# Altium schematic symbol library MCU_ST_STM32L1.SchLib: 158 symbols (part 1 of 4)
Pins are listed as number, name and electrical type; pins without a type are passive.

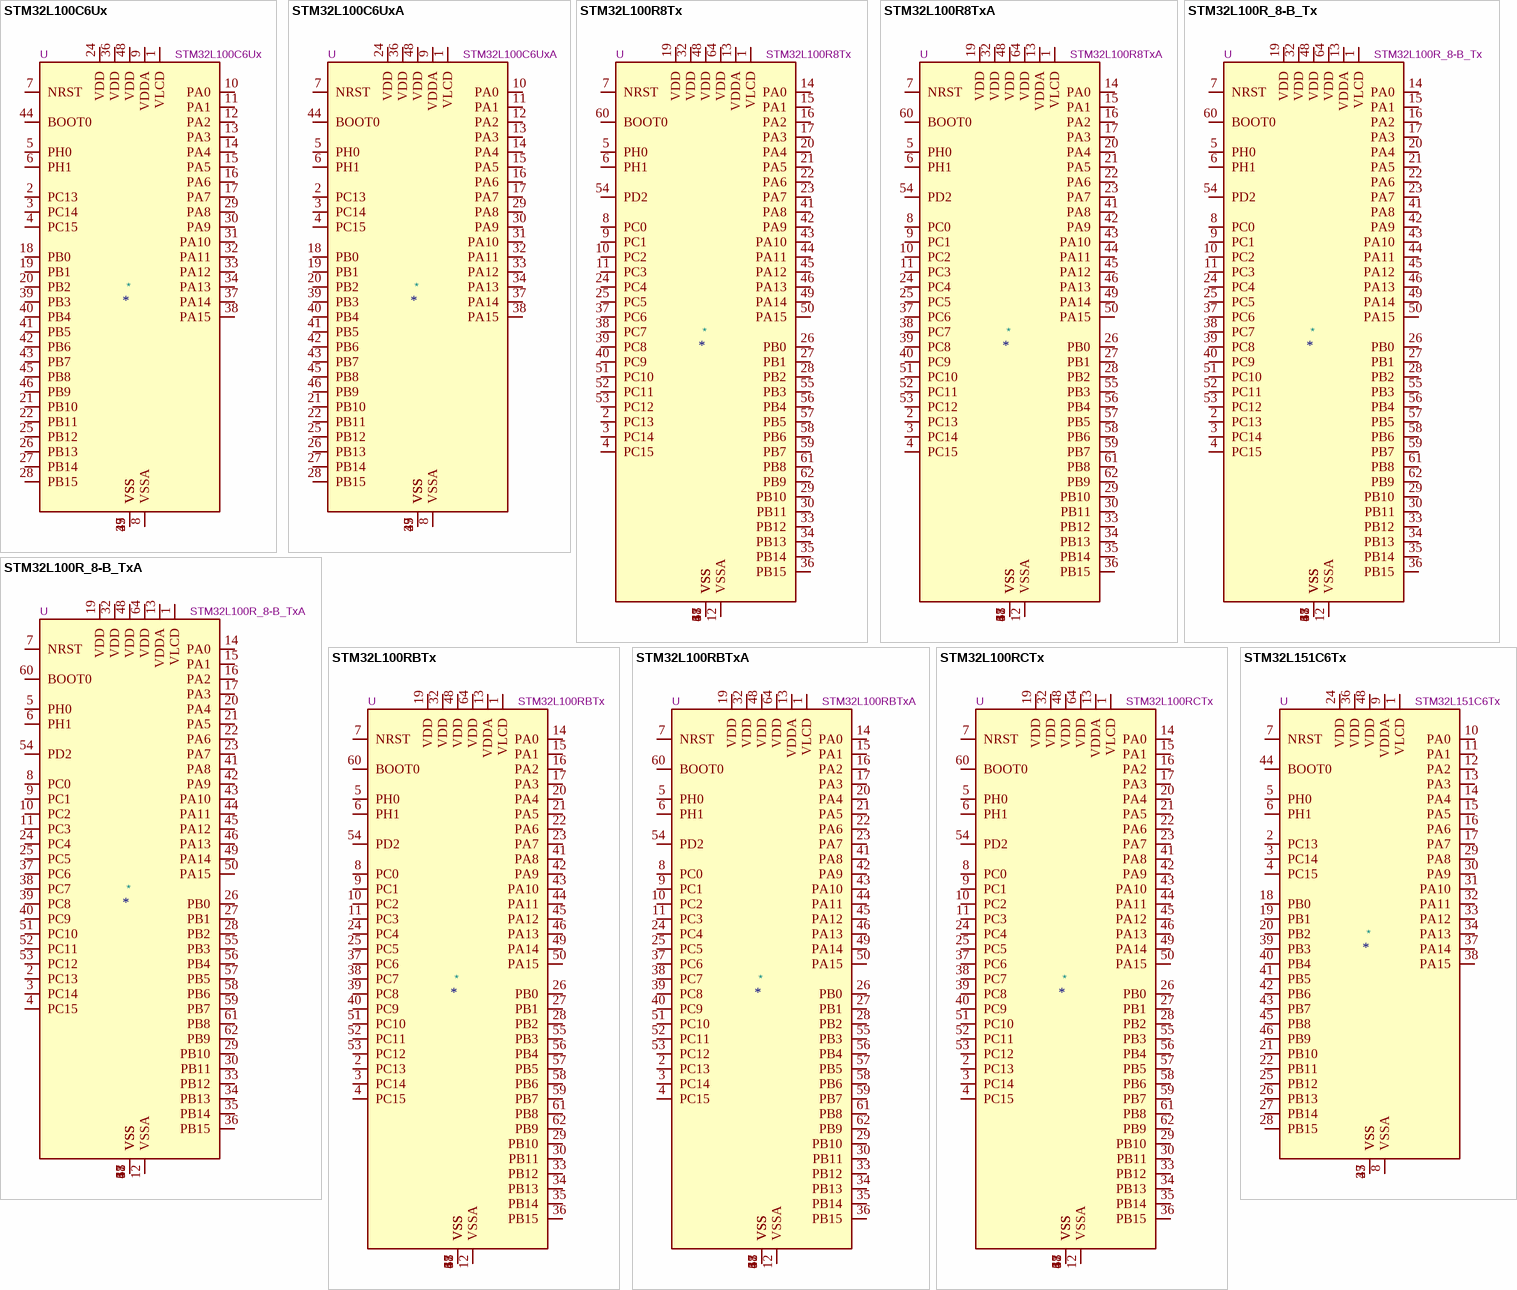
[diagram p0: symbols STM32L100C6Ux to STM32L151C6Tx]

## STM32L100C6Ux
designator *  value STM32L100C6Ux  Reference: U
STMicroelectronics Arm Cortex-M3 MCU, 32KB flash, 4KB RAM, 32 MHz, 1.8-3.6V, 37 GPIO, UFQFPN48; ki_keywords: Arm Cortex-M3 STM32L1 STM32L100 Value Line; ki_fp_filters: QFN*1EP*7x7mm*P0.5mm*; Footprint: Package_DFN_QFN:QFN-48-1EP_7x7mm_P0.5mm_EP5.6x5.6mm; Datasheet: https://www.st.com/resource/en/datasheet/stm32l100c6.pdf; Description_: STMicroelectronics Arm Cortex-M3 MCU, 32KB flash, 4KB RAM, 32 MHz, 1.8-3.6V, 37 GPIO, UFQFPN48
pins: 1 VLCD, 2 PC13, 3 PC14, 4 PC15, 5 PH0, 6 PH1, 7 NRST, 8 VSSA, 9 VDDA, 10 PA0, 11 PA1, 12 PA2, 13 PA3, 14 PA4, 15 PA5, 16 PA6, 17 PA7, 18 PB0, 19 PB1, 20 PB2, 21 PB10, 22 PB11, 23 VSS, 24 VDD, 25 PB12, 26 PB13, 27 PB14, 28 PB15, 29 PA8, 30 PA9, 31 PA10, 32 PA11, 33 PA12, 34 PA13, 35 VSS, 36 VDD, 37 PA14, 38 PA15, 39 PB3, 40 PB4, 41 PB5, 42 PB6, 43 PB7, 44 BOOT0, 45 PB8, 46 PB9, 47 VSS, 48 VDD, 49 VSS

## STM32L100C6UxA
designator *  value STM32L100C6UxA  Reference: U
STMicroelectronics Arm Cortex-M3 MCU, 32KB flash, 4KB RAM, 32 MHz, 1.8-3.6V, 37 GPIO, UFQFPN48; ki_keywords: Arm Cortex-M3 STM32L1 STM32L100 Value Line; ki_fp_filters: QFN*1EP*7x7mm*P0.5mm*; Footprint: Package_DFN_QFN:QFN-48-1EP_7x7mm_P0.5mm_EP5.6x5.6mm; Datasheet: https://www.st.com/resource/en/datasheet/stm32l100c6-a.pdf; Description_: STMicroelectronics Arm Cortex-M3 MCU, 32KB flash, 4KB RAM, 32 MHz, 1.8-3.6V, 37 GPIO, UFQFPN48
pins: 1 VLCD, 2 PC13, 3 PC14, 4 PC15, 5 PH0, 6 PH1, 7 NRST, 8 VSSA, 9 VDDA, 10 PA0, 11 PA1, 12 PA2, 13 PA3, 14 PA4, 15 PA5, 16 PA6, 17 PA7, 18 PB0, 19 PB1, 20 PB2, 21 PB10, 22 PB11, 23 VSS, 24 VDD, 25 PB12, 26 PB13, 27 PB14, 28 PB15, 29 PA8, 30 PA9, 31 PA10, 32 PA11, 33 PA12, 34 PA13, 35 VSS, 36 VDD, 37 PA14, 38 PA15, 39 PB3, 40 PB4, 41 PB5, 42 PB6, 43 PB7, 44 BOOT0, 45 PB8, 46 PB9, 47 VSS, 48 VDD, 49 VSS

## STM32L100R8Tx
designator *  value STM32L100R8Tx  Reference: U
STMicroelectronics Arm Cortex-M3 MCU, 64KB flash, 8KB RAM, 32 MHz, 1.8-3.6V, 51 GPIO, LQFP64; ki_keywords: Arm Cortex-M3 STM32L1 STM32L100 Value Line; ki_fp_filters: LQFP*10x10mm*P0.5mm*; Footprint: Package_QFP:LQFP-64_10x10mm_P0.5mm; Datasheet: https://www.st.com/resource/en/datasheet/stm32l100r8.pdf; Description_: STMicroelectronics Arm Cortex-M3 MCU, 64KB flash, 8KB RAM, 32 MHz, 1.8-3.6V, 51 GPIO, LQFP64
pins: 1 VLCD, 2 PC13, 3 PC14, 4 PC15, 5 PH0, 6 PH1, 7 NRST, 8 PC0, 9 PC1, 10 PC2, 11 PC3, 12 VSSA, 13 VDDA, 14 PA0, 15 PA1, 16 PA2, 17 PA3, 18 VSS, 19 VDD, 20 PA4, 21 PA5, 22 PA6, 23 PA7, 24 PC4, 25 PC5, 26 PB0, 27 PB1, 28 PB2, 29 PB10, 30 PB11, 31 VSS, 32 VDD, 33 PB12, 34 PB13, 35 PB14, 36 PB15, 37 PC6, 38 PC7, 39 PC8, 40 PC9, 41 PA8, 42 PA9, 43 PA10, 44 PA11, 45 PA12, 46 PA13, 47 VSS, 48 VDD, 49 PA14, 50 PA15, 51 PC10, 52 PC11, 53 PC12, 54 PD2, 55 PB3, 56 PB4, 57 PB5, 58 PB6, 59 PB7, 60 BOOT0, 61 PB8, 62 PB9, 63 VSS, 64 VDD

## STM32L100R8TxA
designator *  value STM32L100R8TxA  Reference: U
STMicroelectronics Arm Cortex-M3 MCU, 64KB flash, 8KB RAM, 32 MHz, 1.8-3.6V, 51 GPIO, LQFP64; ki_keywords: Arm Cortex-M3 STM32L1 STM32L100 Value Line; ki_fp_filters: LQFP*10x10mm*P0.5mm*; Footprint: Package_QFP:LQFP-64_10x10mm_P0.5mm; Datasheet: https://www.st.com/resource/en/datasheet/stm32l100r8-a.pdf; Description_: STMicroelectronics Arm Cortex-M3 MCU, 64KB flash, 8KB RAM, 32 MHz, 1.8-3.6V, 51 GPIO, LQFP64
pins: 1 VLCD, 2 PC13, 3 PC14, 4 PC15, 5 PH0, 6 PH1, 7 NRST, 8 PC0, 9 PC1, 10 PC2, 11 PC3, 12 VSSA, 13 VDDA, 14 PA0, 15 PA1, 16 PA2, 17 PA3, 18 VSS, 19 VDD, 20 PA4, 21 PA5, 22 PA6, 23 PA7, 24 PC4, 25 PC5, 26 PB0, 27 PB1, 28 PB2, 29 PB10, 30 PB11, 31 VSS, 32 VDD, 33 PB12, 34 PB13, 35 PB14, 36 PB15, 37 PC6, 38 PC7, 39 PC8, 40 PC9, 41 PA8, 42 PA9, 43 PA10, 44 PA11, 45 PA12, 46 PA13, 47 VSS, 48 VDD, 49 PA14, 50 PA15, 51 PC10, 52 PC11, 53 PC12, 54 PD2, 55 PB3, 56 PB4, 57 PB5, 58 PB6, 59 PB7, 60 BOOT0, 61 PB8, 62 PB9, 63 VSS, 64 VDD

## STM32L100R_8-B_Tx
designator *  value STM32L100R_8-B_Tx  Reference: U
STMicroelectronics Arm Cortex-M3 MCU, 64-128KB flash, 8-10KB RAM, 32 MHz, 1.8-3.6V, 51 GPIO, LQFP64; ki_keywords: Arm Cortex-M3 STM32L1 STM32L100 Value Line; ki_fp_filters: LQFP*10x10mm*P0.5mm*; Footprint: Package_QFP:LQFP-64_10x10mm_P0.5mm; Datasheet: https://www.st.com/resource/en/datasheet/stm32l100r8.pdf; Description_: STMicroelectronics Arm Cortex-M3 MCU, 64-128KB flash, 8-10KB RAM, 32 MHz, 1.8-3.6V, 51 GPIO, LQFP64
pins: 1 VLCD, 2 PC13, 3 PC14, 4 PC15, 5 PH0, 6 PH1, 7 NRST, 8 PC0, 9 PC1, 10 PC2, 11 PC3, 12 VSSA, 13 VDDA, 14 PA0, 15 PA1, 16 PA2, 17 PA3, 18 VSS, 19 VDD, 20 PA4, 21 PA5, 22 PA6, 23 PA7, 24 PC4, 25 PC5, 26 PB0, 27 PB1, 28 PB2, 29 PB10, 30 PB11, 31 VSS, 32 VDD, 33 PB12, 34 PB13, 35 PB14, 36 PB15, 37 PC6, 38 PC7, 39 PC8, 40 PC9, 41 PA8, 42 PA9, 43 PA10, 44 PA11, 45 PA12, 46 PA13, 47 VSS, 48 VDD, 49 PA14, 50 PA15, 51 PC10, 52 PC11, 53 PC12, 54 PD2, 55 PB3, 56 PB4, 57 PB5, 58 PB6, 59 PB7, 60 BOOT0, 61 PB8, 62 PB9, 63 VSS, 64 VDD

## STM32L100R_8-B_TxA
designator *  value STM32L100R_8-B_TxA  Reference: U
STMicroelectronics Arm Cortex-M3 MCU, 64-128KB flash, 8-16KB RAM, 32 MHz, 1.8-3.6V, 51 GPIO, LQFP64; ki_keywords: Arm Cortex-M3 STM32L1 STM32L100 Value Line; ki_fp_filters: LQFP*10x10mm*P0.5mm*; Footprint: Package_QFP:LQFP-64_10x10mm_P0.5mm; Datasheet: https://www.st.com/resource/en/datasheet/stm32l100r8-a.pdf; Description_: STMicroelectronics Arm Cortex-M3 MCU, 64-128KB flash, 8-16KB RAM, 32 MHz, 1.8-3.6V, 51 GPIO, LQFP64
pins: 1 VLCD, 2 PC13, 3 PC14, 4 PC15, 5 PH0, 6 PH1, 7 NRST, 8 PC0, 9 PC1, 10 PC2, 11 PC3, 12 VSSA, 13 VDDA, 14 PA0, 15 PA1, 16 PA2, 17 PA3, 18 VSS, 19 VDD, 20 PA4, 21 PA5, 22 PA6, 23 PA7, 24 PC4, 25 PC5, 26 PB0, 27 PB1, 28 PB2, 29 PB10, 30 PB11, 31 VSS, 32 VDD, 33 PB12, 34 PB13, 35 PB14, 36 PB15, 37 PC6, 38 PC7, 39 PC8, 40 PC9, 41 PA8, 42 PA9, 43 PA10, 44 PA11, 45 PA12, 46 PA13, 47 VSS, 48 VDD, 49 PA14, 50 PA15, 51 PC10, 52 PC11, 53 PC12, 54 PD2, 55 PB3, 56 PB4, 57 PB5, 58 PB6, 59 PB7, 60 BOOT0, 61 PB8, 62 PB9, 63 VSS, 64 VDD

## STM32L100RBTx
designator *  value STM32L100RBTx  Reference: U
STMicroelectronics Arm Cortex-M3 MCU, 128KB flash, 10KB RAM, 32 MHz, 1.8-3.6V, 51 GPIO, LQFP64; ki_keywords: Arm Cortex-M3 STM32L1 STM32L100 Value Line; ki_fp_filters: LQFP*10x10mm*P0.5mm*; Footprint: Package_QFP:LQFP-64_10x10mm_P0.5mm; Datasheet: https://www.st.com/resource/en/datasheet/stm32l100rb.pdf; Description_: STMicroelectronics Arm Cortex-M3 MCU, 128KB flash, 10KB RAM, 32 MHz, 1.8-3.6V, 51 GPIO, LQFP64
pins: 1 VLCD, 2 PC13, 3 PC14, 4 PC15, 5 PH0, 6 PH1, 7 NRST, 8 PC0, 9 PC1, 10 PC2, 11 PC3, 12 VSSA, 13 VDDA, 14 PA0, 15 PA1, 16 PA2, 17 PA3, 18 VSS, 19 VDD, 20 PA4, 21 PA5, 22 PA6, 23 PA7, 24 PC4, 25 PC5, 26 PB0, 27 PB1, 28 PB2, 29 PB10, 30 PB11, 31 VSS, 32 VDD, 33 PB12, 34 PB13, 35 PB14, 36 PB15, 37 PC6, 38 PC7, 39 PC8, 40 PC9, 41 PA8, 42 PA9, 43 PA10, 44 PA11, 45 PA12, 46 PA13, 47 VSS, 48 VDD, 49 PA14, 50 PA15, 51 PC10, 52 PC11, 53 PC12, 54 PD2, 55 PB3, 56 PB4, 57 PB5, 58 PB6, 59 PB7, 60 BOOT0, 61 PB8, 62 PB9, 63 VSS, 64 VDD

## STM32L100RBTxA
designator *  value STM32L100RBTxA  Reference: U
STMicroelectronics Arm Cortex-M3 MCU, 128KB flash, 16KB RAM, 32 MHz, 1.8-3.6V, 51 GPIO, LQFP64; ki_keywords: Arm Cortex-M3 STM32L1 STM32L100 Value Line; ki_fp_filters: LQFP*10x10mm*P0.5mm*; Footprint: Package_QFP:LQFP-64_10x10mm_P0.5mm; Datasheet: https://www.st.com/resource/en/datasheet/stm32l100rb-a.pdf; Description_: STMicroelectronics Arm Cortex-M3 MCU, 128KB flash, 16KB RAM, 32 MHz, 1.8-3.6V, 51 GPIO, LQFP64
pins: 1 VLCD, 2 PC13, 3 PC14, 4 PC15, 5 PH0, 6 PH1, 7 NRST, 8 PC0, 9 PC1, 10 PC2, 11 PC3, 12 VSSA, 13 VDDA, 14 PA0, 15 PA1, 16 PA2, 17 PA3, 18 VSS, 19 VDD, 20 PA4, 21 PA5, 22 PA6, 23 PA7, 24 PC4, 25 PC5, 26 PB0, 27 PB1, 28 PB2, 29 PB10, 30 PB11, 31 VSS, 32 VDD, 33 PB12, 34 PB13, 35 PB14, 36 PB15, 37 PC6, 38 PC7, 39 PC8, 40 PC9, 41 PA8, 42 PA9, 43 PA10, 44 PA11, 45 PA12, 46 PA13, 47 VSS, 48 VDD, 49 PA14, 50 PA15, 51 PC10, 52 PC11, 53 PC12, 54 PD2, 55 PB3, 56 PB4, 57 PB5, 58 PB6, 59 PB7, 60 BOOT0, 61 PB8, 62 PB9, 63 VSS, 64 VDD

## STM32L100RCTx
designator *  value STM32L100RCTx  Reference: U
STMicroelectronics Arm Cortex-M3 MCU, 256KB flash, 16KB RAM, 32 MHz, 1.8-3.6V, 51 GPIO, LQFP64; ki_keywords: Arm Cortex-M3 STM32L1 STM32L100 Value Line; ki_fp_filters: LQFP*10x10mm*P0.5mm*; Footprint: Package_QFP:LQFP-64_10x10mm_P0.5mm; Datasheet: https://www.st.com/resource/en/datasheet/stm32l100rc.pdf; Description_: STMicroelectronics Arm Cortex-M3 MCU, 256KB flash, 16KB RAM, 32 MHz, 1.8-3.6V, 51 GPIO, LQFP64
pins: 1 VLCD, 2 PC13, 3 PC14, 4 PC15, 5 PH0, 6 PH1, 7 NRST, 8 PC0, 9 PC1, 10 PC2, 11 PC3, 12 VSSA, 13 VDDA, 14 PA0, 15 PA1, 16 PA2, 17 PA3, 18 VSS, 19 VDD, 20 PA4, 21 PA5, 22 PA6, 23 PA7, 24 PC4, 25 PC5, 26 PB0, 27 PB1, 28 PB2, 29 PB10, 30 PB11, 31 VSS, 32 VDD, 33 PB12, 34 PB13, 35 PB14, 36 PB15, 37 PC6, 38 PC7, 39 PC8, 40 PC9, 41 PA8, 42 PA9, 43 PA10, 44 PA11, 45 PA12, 46 PA13, 47 VSS, 48 VDD, 49 PA14, 50 PA15, 51 PC10, 52 PC11, 53 PC12, 54 PD2, 55 PB3, 56 PB4, 57 PB5, 58 PB6, 59 PB7, 60 BOOT0, 61 PB8, 62 PB9, 63 VSS, 64 VDD

## STM32L151C6Tx
designator *  value STM32L151C6Tx  Reference: U
STMicroelectronics Arm Cortex-M3 MCU, 32KB flash, 10KB RAM, 32 MHz, 1.65-3.6V, 37 GPIO, LQFP48; ki_keywords: Arm Cortex-M3 STM32L1 STM32L151/152; ki_fp_filters: LQFP*7x7mm*P0.5mm*; Footprint: Package_QFP:LQFP-48_7x7mm_P0.5mm; Datasheet: https://www.st.com/resource/en/datasheet/stm32l151c6.pdf; Description_: STMicroelectronics Arm Cortex-M3 MCU, 32KB flash, 10KB RAM, 32 MHz, 1.65-3.6V, 37 GPIO, LQFP48
pins: 1 VLCD, 2 PC13, 3 PC14, 4 PC15, 5 PH0, 6 PH1, 7 NRST, 8 VSSA, 9 VDDA, 10 PA0, 11 PA1, 12 PA2, 13 PA3, 14 PA4, 15 PA5, 16 PA6, 17 PA7, 18 PB0, 19 PB1, 20 PB2, 21 PB10, 22 PB11, 23 VSS, 24 VDD, 25 PB12, 26 PB13, 27 PB14, 28 PB15, 29 PA8, 30 PA9, 31 PA10, 32 PA11, 33 PA12, 34 PA13, 35 VSS, 36 VDD, 37 PA14, 38 PA15, 39 PB3, 40 PB4, 41 PB5, 42 PB6, 43 PB7, 44 BOOT0, 45 PB8, 46 PB9, 47 VSS, 48 VDD

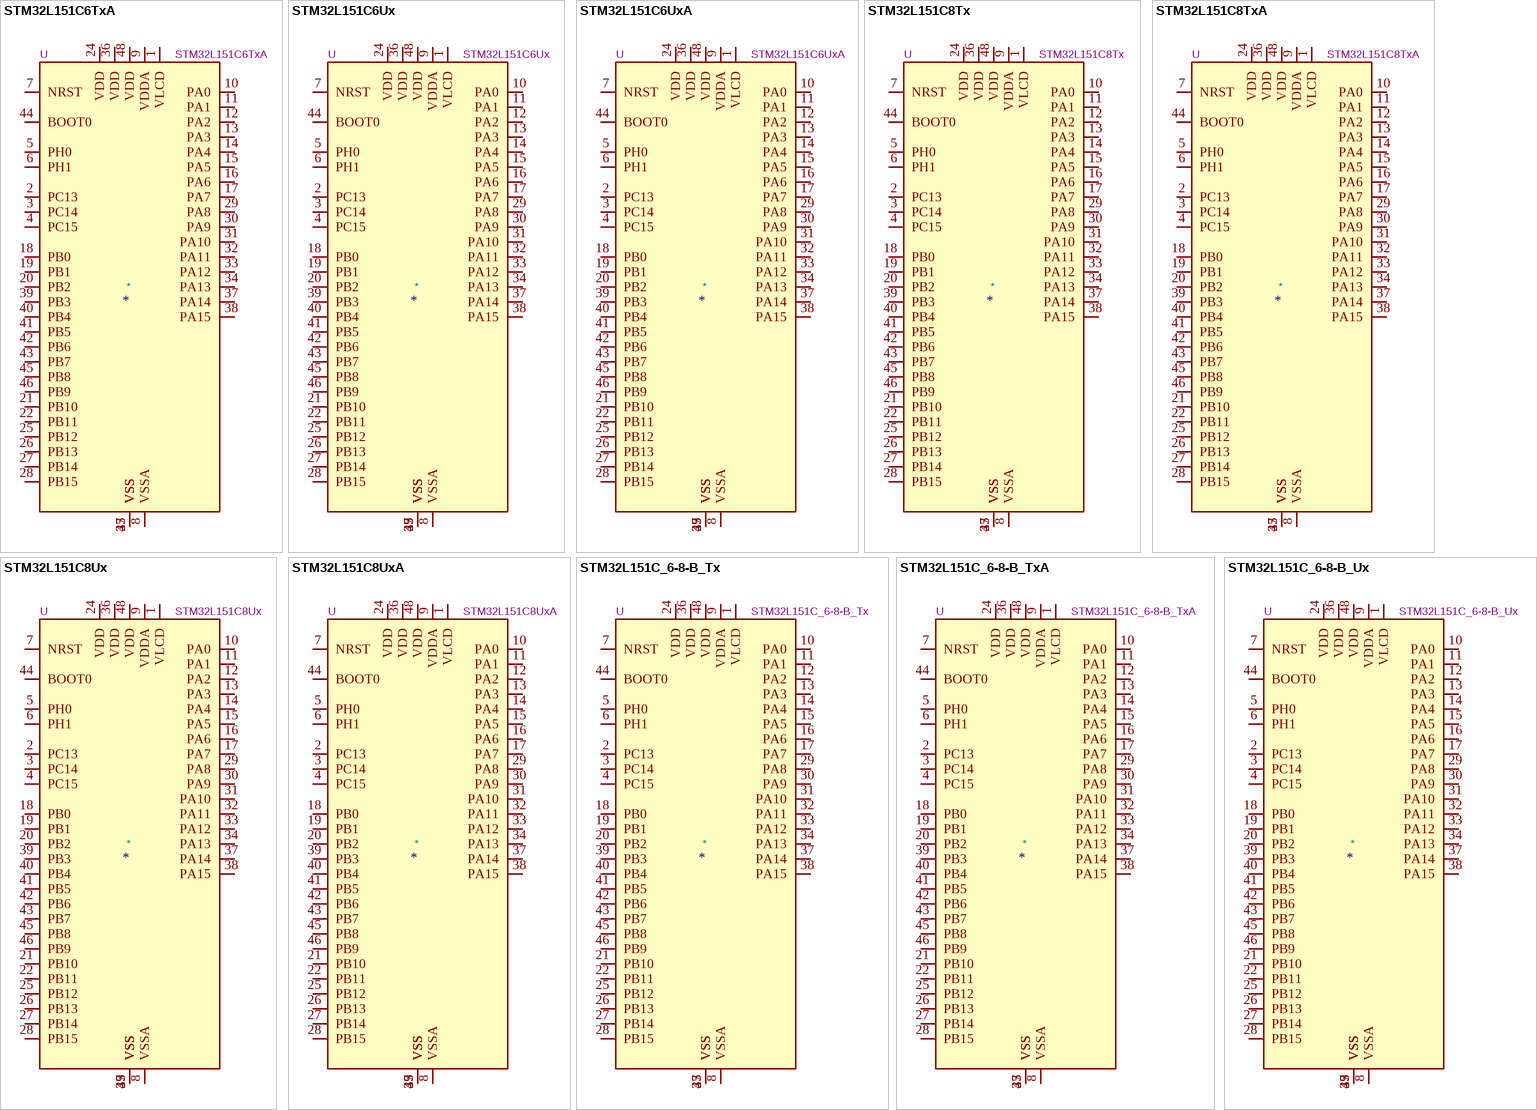
[diagram p1: symbols STM32L151C6TxA to STM32L151C_6-8-B_Ux]

## STM32L151C6TxA
designator *  value STM32L151C6TxA  Reference: U
STMicroelectronics Arm Cortex-M3 MCU, 32KB flash, 16KB RAM, 32 MHz, 1.65-3.6V, 37 GPIO, LQFP48; ki_keywords: Arm Cortex-M3 STM32L1 STM32L151/152; ki_fp_filters: LQFP*7x7mm*P0.5mm*; Footprint: Package_QFP:LQFP-48_7x7mm_P0.5mm; Datasheet: https://www.st.com/resource/en/datasheet/stm32l151c6-a.pdf; Description_: STMicroelectronics Arm Cortex-M3 MCU, 32KB flash, 16KB RAM, 32 MHz, 1.65-3.6V, 37 GPIO, LQFP48
pins: 1 VLCD, 2 PC13, 3 PC14, 4 PC15, 5 PH0, 6 PH1, 7 NRST, 8 VSSA, 9 VDDA, 10 PA0, 11 PA1, 12 PA2, 13 PA3, 14 PA4, 15 PA5, 16 PA6, 17 PA7, 18 PB0, 19 PB1, 20 PB2, 21 PB10, 22 PB11, 23 VSS, 24 VDD, 25 PB12, 26 PB13, 27 PB14, 28 PB15, 29 PA8, 30 PA9, 31 PA10, 32 PA11, 33 PA12, 34 PA13, 35 VSS, 36 VDD, 37 PA14, 38 PA15, 39 PB3, 40 PB4, 41 PB5, 42 PB6, 43 PB7, 44 BOOT0, 45 PB8, 46 PB9, 47 VSS, 48 VDD

## STM32L151C6Ux
designator *  value STM32L151C6Ux  Reference: U
STMicroelectronics Arm Cortex-M3 MCU, 32KB flash, 10KB RAM, 32 MHz, 1.65-3.6V, 37 GPIO, UFQFPN48; ki_keywords: Arm Cortex-M3 STM32L1 STM32L151/152; ki_fp_filters: QFN*1EP*7x7mm*P0.5mm*; Footprint: Package_DFN_QFN:QFN-48-1EP_7x7mm_P0.5mm_EP5.6x5.6mm; Datasheet: https://www.st.com/resource/en/datasheet/stm32l151c6.pdf; Description_: STMicroelectronics Arm Cortex-M3 MCU, 32KB flash, 10KB RAM, 32 MHz, 1.65-3.6V, 37 GPIO, UFQFPN48
pins: 1 VLCD, 2 PC13, 3 PC14, 4 PC15, 5 PH0, 6 PH1, 7 NRST, 8 VSSA, 9 VDDA, 10 PA0, 11 PA1, 12 PA2, 13 PA3, 14 PA4, 15 PA5, 16 PA6, 17 PA7, 18 PB0, 19 PB1, 20 PB2, 21 PB10, 22 PB11, 23 VSS, 24 VDD, 25 PB12, 26 PB13, 27 PB14, 28 PB15, 29 PA8, 30 PA9, 31 PA10, 32 PA11, 33 PA12, 34 PA13, 35 VSS, 36 VDD, 37 PA14, 38 PA15, 39 PB3, 40 PB4, 41 PB5, 42 PB6, 43 PB7, 44 BOOT0, 45 PB8, 46 PB9, 47 VSS, 48 VDD, 49 VSS

## STM32L151C6UxA
designator *  value STM32L151C6UxA  Reference: U
STMicroelectronics Arm Cortex-M3 MCU, 32KB flash, 16KB RAM, 32 MHz, 1.65-3.6V, 37 GPIO, UFQFPN48; ki_keywords: Arm Cortex-M3 STM32L1 STM32L151/152; ki_fp_filters: QFN*1EP*7x7mm*P0.5mm*; Footprint: Package_DFN_QFN:QFN-48-1EP_7x7mm_P0.5mm_EP5.6x5.6mm; Datasheet: https://www.st.com/resource/en/datasheet/stm32l151c6-a.pdf; Description_: STMicroelectronics Arm Cortex-M3 MCU, 32KB flash, 16KB RAM, 32 MHz, 1.65-3.6V, 37 GPIO, UFQFPN48
pins: 1 VLCD, 2 PC13, 3 PC14, 4 PC15, 5 PH0, 6 PH1, 7 NRST, 8 VSSA, 9 VDDA, 10 PA0, 11 PA1, 12 PA2, 13 PA3, 14 PA4, 15 PA5, 16 PA6, 17 PA7, 18 PB0, 19 PB1, 20 PB2, 21 PB10, 22 PB11, 23 VSS, 24 VDD, 25 PB12, 26 PB13, 27 PB14, 28 PB15, 29 PA8, 30 PA9, 31 PA10, 32 PA11, 33 PA12, 34 PA13, 35 VSS, 36 VDD, 37 PA14, 38 PA15, 39 PB3, 40 PB4, 41 PB5, 42 PB6, 43 PB7, 44 BOOT0, 45 PB8, 46 PB9, 47 VSS, 48 VDD, 49 VSS

## STM32L151C8Tx
designator *  value STM32L151C8Tx  Reference: U
STMicroelectronics Arm Cortex-M3 MCU, 64KB flash, 10KB RAM, 32 MHz, 1.65-3.6V, 37 GPIO, LQFP48; ki_keywords: Arm Cortex-M3 STM32L1 STM32L151/152; ki_fp_filters: LQFP*7x7mm*P0.5mm*; Footprint: Package_QFP:LQFP-48_7x7mm_P0.5mm; Datasheet: https://www.st.com/resource/en/datasheet/stm32l151c8.pdf; Description_: STMicroelectronics Arm Cortex-M3 MCU, 64KB flash, 10KB RAM, 32 MHz, 1.65-3.6V, 37 GPIO, LQFP48
pins: 1 VLCD, 2 PC13, 3 PC14, 4 PC15, 5 PH0, 6 PH1, 7 NRST, 8 VSSA, 9 VDDA, 10 PA0, 11 PA1, 12 PA2, 13 PA3, 14 PA4, 15 PA5, 16 PA6, 17 PA7, 18 PB0, 19 PB1, 20 PB2, 21 PB10, 22 PB11, 23 VSS, 24 VDD, 25 PB12, 26 PB13, 27 PB14, 28 PB15, 29 PA8, 30 PA9, 31 PA10, 32 PA11, 33 PA12, 34 PA13, 35 VSS, 36 VDD, 37 PA14, 38 PA15, 39 PB3, 40 PB4, 41 PB5, 42 PB6, 43 PB7, 44 BOOT0, 45 PB8, 46 PB9, 47 VSS, 48 VDD

## STM32L151C8TxA
designator *  value STM32L151C8TxA  Reference: U
STMicroelectronics Arm Cortex-M3 MCU, 64KB flash, 32KB RAM, 32 MHz, 1.65-3.6V, 37 GPIO, LQFP48; ki_keywords: Arm Cortex-M3 STM32L1 STM32L151/152; ki_fp_filters: LQFP*7x7mm*P0.5mm*; Footprint: Package_QFP:LQFP-48_7x7mm_P0.5mm; Datasheet: https://www.st.com/resource/en/datasheet/stm32l151c8-a.pdf; Description_: STMicroelectronics Arm Cortex-M3 MCU, 64KB flash, 32KB RAM, 32 MHz, 1.65-3.6V, 37 GPIO, LQFP48
pins: 1 VLCD, 2 PC13, 3 PC14, 4 PC15, 5 PH0, 6 PH1, 7 NRST, 8 VSSA, 9 VDDA, 10 PA0, 11 PA1, 12 PA2, 13 PA3, 14 PA4, 15 PA5, 16 PA6, 17 PA7, 18 PB0, 19 PB1, 20 PB2, 21 PB10, 22 PB11, 23 VSS, 24 VDD, 25 PB12, 26 PB13, 27 PB14, 28 PB15, 29 PA8, 30 PA9, 31 PA10, 32 PA11, 33 PA12, 34 PA13, 35 VSS, 36 VDD, 37 PA14, 38 PA15, 39 PB3, 40 PB4, 41 PB5, 42 PB6, 43 PB7, 44 BOOT0, 45 PB8, 46 PB9, 47 VSS, 48 VDD

## STM32L151C8Ux
designator *  value STM32L151C8Ux  Reference: U
STMicroelectronics Arm Cortex-M3 MCU, 64KB flash, 10KB RAM, 32 MHz, 1.65-3.6V, 37 GPIO, UFQFPN48; ki_keywords: Arm Cortex-M3 STM32L1 STM32L151/152; ki_fp_filters: QFN*1EP*7x7mm*P0.5mm*; Footprint: Package_DFN_QFN:QFN-48-1EP_7x7mm_P0.5mm_EP5.6x5.6mm; Datasheet: https://www.st.com/resource/en/datasheet/stm32l151c8.pdf; Description_: STMicroelectronics Arm Cortex-M3 MCU, 64KB flash, 10KB RAM, 32 MHz, 1.65-3.6V, 37 GPIO, UFQFPN48
pins: 1 VLCD, 2 PC13, 3 PC14, 4 PC15, 5 PH0, 6 PH1, 7 NRST, 8 VSSA, 9 VDDA, 10 PA0, 11 PA1, 12 PA2, 13 PA3, 14 PA4, 15 PA5, 16 PA6, 17 PA7, 18 PB0, 19 PB1, 20 PB2, 21 PB10, 22 PB11, 23 VSS, 24 VDD, 25 PB12, 26 PB13, 27 PB14, 28 PB15, 29 PA8, 30 PA9, 31 PA10, 32 PA11, 33 PA12, 34 PA13, 35 VSS, 36 VDD, 37 PA14, 38 PA15, 39 PB3, 40 PB4, 41 PB5, 42 PB6, 43 PB7, 44 BOOT0, 45 PB8, 46 PB9, 47 VSS, 48 VDD, 49 VSS

## STM32L151C8UxA
designator *  value STM32L151C8UxA  Reference: U
STMicroelectronics Arm Cortex-M3 MCU, 64KB flash, 32KB RAM, 32 MHz, 1.65-3.6V, 37 GPIO, UFQFPN48; ki_keywords: Arm Cortex-M3 STM32L1 STM32L151/152; ki_fp_filters: QFN*1EP*7x7mm*P0.5mm*; Footprint: Package_DFN_QFN:QFN-48-1EP_7x7mm_P0.5mm_EP5.6x5.6mm; Datasheet: https://www.st.com/resource/en/datasheet/stm32l151c8-a.pdf; Description_: STMicroelectronics Arm Cortex-M3 MCU, 64KB flash, 32KB RAM, 32 MHz, 1.65-3.6V, 37 GPIO, UFQFPN48
pins: 1 VLCD, 2 PC13, 3 PC14, 4 PC15, 5 PH0, 6 PH1, 7 NRST, 8 VSSA, 9 VDDA, 10 PA0, 11 PA1, 12 PA2, 13 PA3, 14 PA4, 15 PA5, 16 PA6, 17 PA7, 18 PB0, 19 PB1, 20 PB2, 21 PB10, 22 PB11, 23 VSS, 24 VDD, 25 PB12, 26 PB13, 27 PB14, 28 PB15, 29 PA8, 30 PA9, 31 PA10, 32 PA11, 33 PA12, 34 PA13, 35 VSS, 36 VDD, 37 PA14, 38 PA15, 39 PB3, 40 PB4, 41 PB5, 42 PB6, 43 PB7, 44 BOOT0, 45 PB8, 46 PB9, 47 VSS, 48 VDD, 49 VSS

## STM32L151C_6-8-B_Tx
designator *  value STM32L151C_6-8-B_Tx  Reference: U
STMicroelectronics Arm Cortex-M3 MCU, 32-128KB flash, 10-16KB RAM, 32 MHz, 1.65-3.6V, 37 GPIO, LQFP48; ki_keywords: Arm Cortex-M3 STM32L1 STM32L151/152; ki_fp_filters: LQFP*7x7mm*P0.5mm*; Footprint: Package_QFP:LQFP-48_7x7mm_P0.5mm; Datasheet: https://www.st.com/resource/en/datasheet/stm32l151c6.pdf; Description_: STMicroelectronics Arm Cortex-M3 MCU, 32-128KB flash, 10-16KB RAM, 32 MHz, 1.65-3.6V, 37 GPIO, LQFP48
pins: 1 VLCD, 2 PC13, 3 PC14, 4 PC15, 5 PH0, 6 PH1, 7 NRST, 8 VSSA, 9 VDDA, 10 PA0, 11 PA1, 12 PA2, 13 PA3, 14 PA4, 15 PA5, 16 PA6, 17 PA7, 18 PB0, 19 PB1, 20 PB2, 21 PB10, 22 PB11, 23 VSS, 24 VDD, 25 PB12, 26 PB13, 27 PB14, 28 PB15, 29 PA8, 30 PA9, 31 PA10, 32 PA11, 33 PA12, 34 PA13, 35 VSS, 36 VDD, 37 PA14, 38 PA15, 39 PB3, 40 PB4, 41 PB5, 42 PB6, 43 PB7, 44 BOOT0, 45 PB8, 46 PB9, 47 VSS, 48 VDD

## STM32L151C_6-8-B_TxA
designator *  value STM32L151C_6-8-B_TxA  Reference: U
STMicroelectronics Arm Cortex-M3 MCU, 32-128KB flash, 16-32KB RAM, 32 MHz, 1.65-3.6V, 37 GPIO, LQFP48; ki_keywords: Arm Cortex-M3 STM32L1 STM32L151/152; ki_fp_filters: LQFP*7x7mm*P0.5mm*; Footprint: Package_QFP:LQFP-48_7x7mm_P0.5mm; Datasheet: https://www.st.com/resource/en/datasheet/stm32l151c6-a.pdf; Description_: STMicroelectronics Arm Cortex-M3 MCU, 32-128KB flash, 16-32KB RAM, 32 MHz, 1.65-3.6V, 37 GPIO, LQFP48
pins: 1 VLCD, 2 PC13, 3 PC14, 4 PC15, 5 PH0, 6 PH1, 7 NRST, 8 VSSA, 9 VDDA, 10 PA0, 11 PA1, 12 PA2, 13 PA3, 14 PA4, 15 PA5, 16 PA6, 17 PA7, 18 PB0, 19 PB1, 20 PB2, 21 PB10, 22 PB11, 23 VSS, 24 VDD, 25 PB12, 26 PB13, 27 PB14, 28 PB15, 29 PA8, 30 PA9, 31 PA10, 32 PA11, 33 PA12, 34 PA13, 35 VSS, 36 VDD, 37 PA14, 38 PA15, 39 PB3, 40 PB4, 41 PB5, 42 PB6, 43 PB7, 44 BOOT0, 45 PB8, 46 PB9, 47 VSS, 48 VDD

## STM32L151C_6-8-B_Ux
designator *  value STM32L151C_6-8-B_Ux  Reference: U
STMicroelectronics Arm Cortex-M3 MCU, 32-128KB flash, 10-16KB RAM, 32 MHz, 1.65-3.6V, 37 GPIO, UFQFPN48; ki_keywords: Arm Cortex-M3 STM32L1 STM32L151/152; ki_fp_filters: QFN*1EP*7x7mm*P0.5mm*; Footprint: Package_DFN_QFN:QFN-48-1EP_7x7mm_P0.5mm_EP5.6x5.6mm; Datasheet: https://www.st.com/resource/en/datasheet/stm32l151c6.pdf; Description_: STMicroelectronics Arm Cortex-M3 MCU, 32-128KB flash, 10-16KB RAM, 32 MHz, 1.65-3.6V, 37 GPIO, UFQFPN48
pins: 1 VLCD, 2 PC13, 3 PC14, 4 PC15, 5 PH0, 6 PH1, 7 NRST, 8 VSSA, 9 VDDA, 10 PA0, 11 PA1, 12 PA2, 13 PA3, 14 PA4, 15 PA5, 16 PA6, 17 PA7, 18 PB0, 19 PB1, 20 PB2, 21 PB10, 22 PB11, 23 VSS, 24 VDD, 25 PB12, 26 PB13, 27 PB14, 28 PB15, 29 PA8, 30 PA9, 31 PA10, 32 PA11, 33 PA12, 34 PA13, 35 VSS, 36 VDD, 37 PA14, 38 PA15, 39 PB3, 40 PB4, 41 PB5, 42 PB6, 43 PB7, 44 BOOT0, 45 PB8, 46 PB9, 47 VSS, 48 VDD, 49 VSS

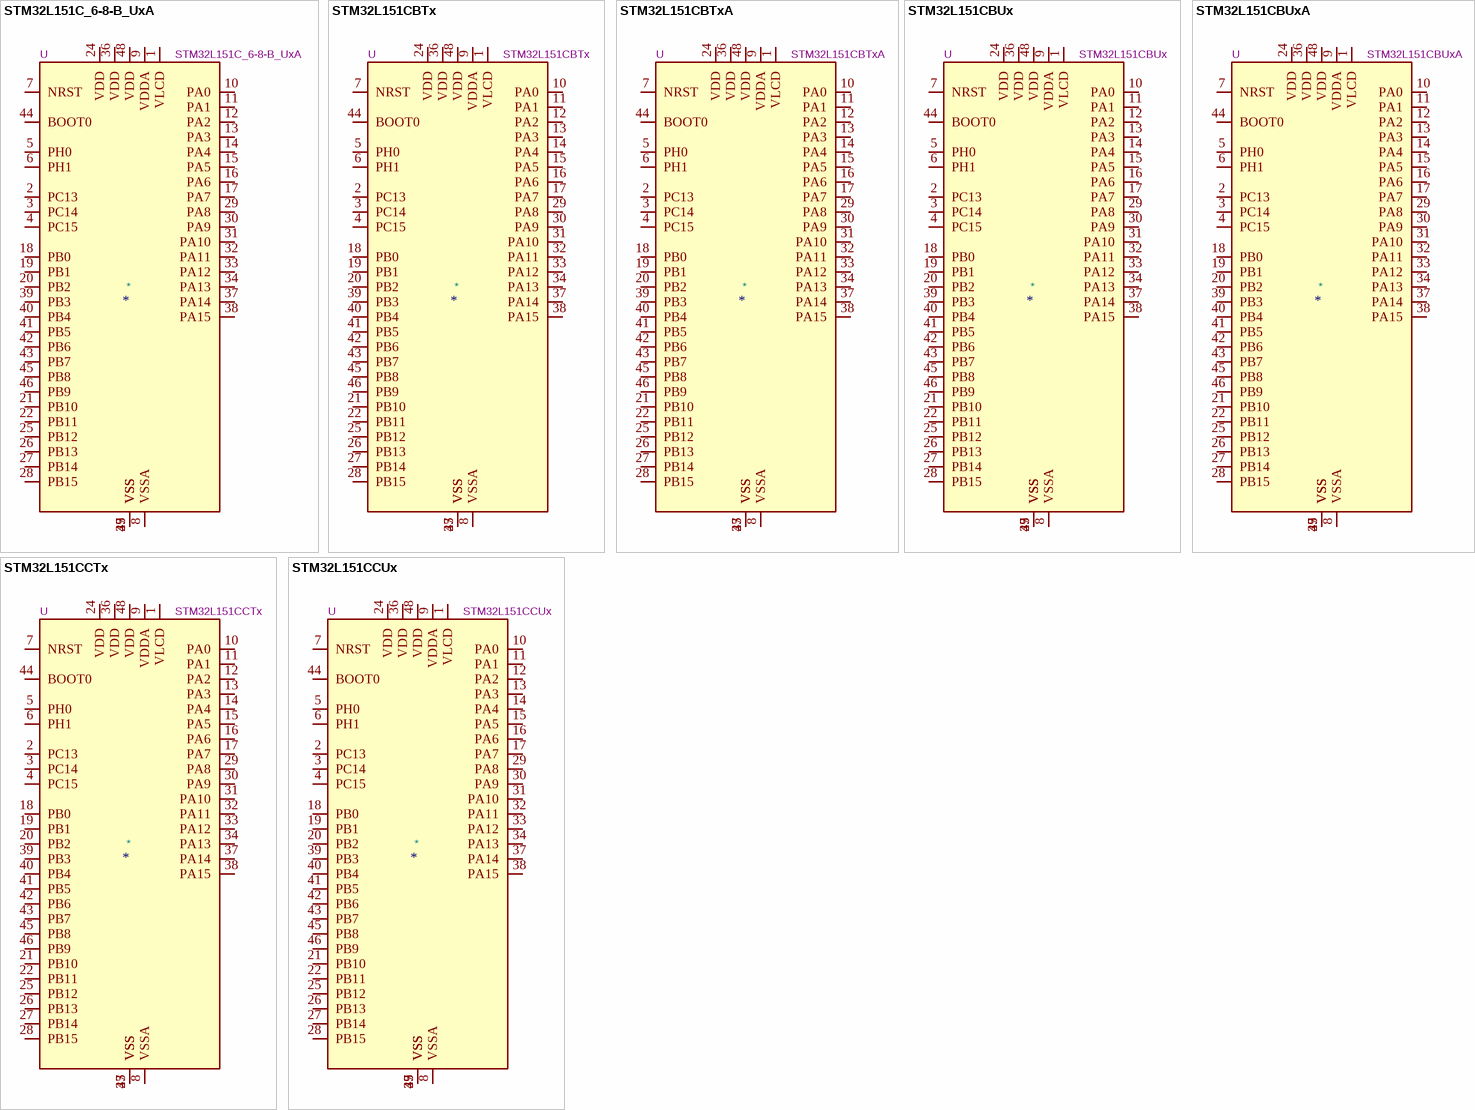
[diagram p2: symbols STM32L151C_6-8-B_UxA to STM32L151CCUx]

## STM32L151C_6-8-B_UxA
designator *  value STM32L151C_6-8-B_UxA  Reference: U
STMicroelectronics Arm Cortex-M3 MCU, 32-128KB flash, 16-32KB RAM, 32 MHz, 1.65-3.6V, 37 GPIO, UFQFPN48; ki_keywords: Arm Cortex-M3 STM32L1 STM32L151/152; ki_fp_filters: QFN*1EP*7x7mm*P0.5mm*; Footprint: Package_DFN_QFN:QFN-48-1EP_7x7mm_P0.5mm_EP5.6x5.6mm; Datasheet: https://www.st.com/resource/en/datasheet/stm32l151c6-a.pdf; Description_: STMicroelectronics Arm Cortex-M3 MCU, 32-128KB flash, 16-32KB RAM, 32 MHz, 1.65-3.6V, 37 GPIO, UFQFPN48
pins: 1 VLCD, 2 PC13, 3 PC14, 4 PC15, 5 PH0, 6 PH1, 7 NRST, 8 VSSA, 9 VDDA, 10 PA0, 11 PA1, 12 PA2, 13 PA3, 14 PA4, 15 PA5, 16 PA6, 17 PA7, 18 PB0, 19 PB1, 20 PB2, 21 PB10, 22 PB11, 23 VSS, 24 VDD, 25 PB12, 26 PB13, 27 PB14, 28 PB15, 29 PA8, 30 PA9, 31 PA10, 32 PA11, 33 PA12, 34 PA13, 35 VSS, 36 VDD, 37 PA14, 38 PA15, 39 PB3, 40 PB4, 41 PB5, 42 PB6, 43 PB7, 44 BOOT0, 45 PB8, 46 PB9, 47 VSS, 48 VDD, 49 VSS

## STM32L151CBTx
designator *  value STM32L151CBTx  Reference: U
STMicroelectronics Arm Cortex-M3 MCU, 128KB flash, 16KB RAM, 32 MHz, 1.65-3.6V, 37 GPIO, LQFP48; ki_keywords: Arm Cortex-M3 STM32L1 STM32L151/152; ki_fp_filters: LQFP*7x7mm*P0.5mm*; Footprint: Package_QFP:LQFP-48_7x7mm_P0.5mm; Datasheet: https://www.st.com/resource/en/datasheet/stm32l151cb.pdf; Description_: STMicroelectronics Arm Cortex-M3 MCU, 128KB flash, 16KB RAM, 32 MHz, 1.65-3.6V, 37 GPIO, LQFP48
pins: 1 VLCD, 2 PC13, 3 PC14, 4 PC15, 5 PH0, 6 PH1, 7 NRST, 8 VSSA, 9 VDDA, 10 PA0, 11 PA1, 12 PA2, 13 PA3, 14 PA4, 15 PA5, 16 PA6, 17 PA7, 18 PB0, 19 PB1, 20 PB2, 21 PB10, 22 PB11, 23 VSS, 24 VDD, 25 PB12, 26 PB13, 27 PB14, 28 PB15, 29 PA8, 30 PA9, 31 PA10, 32 PA11, 33 PA12, 34 PA13, 35 VSS, 36 VDD, 37 PA14, 38 PA15, 39 PB3, 40 PB4, 41 PB5, 42 PB6, 43 PB7, 44 BOOT0, 45 PB8, 46 PB9, 47 VSS, 48 VDD

## STM32L151CBTxA
designator *  value STM32L151CBTxA  Reference: U
STMicroelectronics Arm Cortex-M3 MCU, 128KB flash, 32KB RAM, 32 MHz, 1.65-3.6V, 37 GPIO, LQFP48; ki_keywords: Arm Cortex-M3 STM32L1 STM32L151/152; ki_fp_filters: LQFP*7x7mm*P0.5mm*; Footprint: Package_QFP:LQFP-48_7x7mm_P0.5mm; Datasheet: https://www.st.com/resource/en/datasheet/stm32l151cb-a.pdf; Description_: STMicroelectronics Arm Cortex-M3 MCU, 128KB flash, 32KB RAM, 32 MHz, 1.65-3.6V, 37 GPIO, LQFP48
pins: 1 VLCD, 2 PC13, 3 PC14, 4 PC15, 5 PH0, 6 PH1, 7 NRST, 8 VSSA, 9 VDDA, 10 PA0, 11 PA1, 12 PA2, 13 PA3, 14 PA4, 15 PA5, 16 PA6, 17 PA7, 18 PB0, 19 PB1, 20 PB2, 21 PB10, 22 PB11, 23 VSS, 24 VDD, 25 PB12, 26 PB13, 27 PB14, 28 PB15, 29 PA8, 30 PA9, 31 PA10, 32 PA11, 33 PA12, 34 PA13, 35 VSS, 36 VDD, 37 PA14, 38 PA15, 39 PB3, 40 PB4, 41 PB5, 42 PB6, 43 PB7, 44 BOOT0, 45 PB8, 46 PB9, 47 VSS, 48 VDD

## STM32L151CBUx
designator *  value STM32L151CBUx  Reference: U
STMicroelectronics Arm Cortex-M3 MCU, 128KB flash, 16KB RAM, 32 MHz, 1.65-3.6V, 37 GPIO, UFQFPN48; ki_keywords: Arm Cortex-M3 STM32L1 STM32L151/152; ki_fp_filters: QFN*1EP*7x7mm*P0.5mm*; Footprint: Package_DFN_QFN:QFN-48-1EP_7x7mm_P0.5mm_EP5.6x5.6mm; Datasheet: https://www.st.com/resource/en/datasheet/stm32l151cb.pdf; Description_: STMicroelectronics Arm Cortex-M3 MCU, 128KB flash, 16KB RAM, 32 MHz, 1.65-3.6V, 37 GPIO, UFQFPN48
pins: 1 VLCD, 2 PC13, 3 PC14, 4 PC15, 5 PH0, 6 PH1, 7 NRST, 8 VSSA, 9 VDDA, 10 PA0, 11 PA1, 12 PA2, 13 PA3, 14 PA4, 15 PA5, 16 PA6, 17 PA7, 18 PB0, 19 PB1, 20 PB2, 21 PB10, 22 PB11, 23 VSS, 24 VDD, 25 PB12, 26 PB13, 27 PB14, 28 PB15, 29 PA8, 30 PA9, 31 PA10, 32 PA11, 33 PA12, 34 PA13, 35 VSS, 36 VDD, 37 PA14, 38 PA15, 39 PB3, 40 PB4, 41 PB5, 42 PB6, 43 PB7, 44 BOOT0, 45 PB8, 46 PB9, 47 VSS, 48 VDD, 49 VSS

## STM32L151CBUxA
designator *  value STM32L151CBUxA  Reference: U
STMicroelectronics Arm Cortex-M3 MCU, 128KB flash, 32KB RAM, 32 MHz, 1.65-3.6V, 37 GPIO, UFQFPN48; ki_keywords: Arm Cortex-M3 STM32L1 STM32L151/152; ki_fp_filters: QFN*1EP*7x7mm*P0.5mm*; Footprint: Package_DFN_QFN:QFN-48-1EP_7x7mm_P0.5mm_EP5.6x5.6mm; Datasheet: https://www.st.com/resource/en/datasheet/stm32l151cb-a.pdf; Description_: STMicroelectronics Arm Cortex-M3 MCU, 128KB flash, 32KB RAM, 32 MHz, 1.65-3.6V, 37 GPIO, UFQFPN48
pins: 1 VLCD, 2 PC13, 3 PC14, 4 PC15, 5 PH0, 6 PH1, 7 NRST, 8 VSSA, 9 VDDA, 10 PA0, 11 PA1, 12 PA2, 13 PA3, 14 PA4, 15 PA5, 16 PA6, 17 PA7, 18 PB0, 19 PB1, 20 PB2, 21 PB10, 22 PB11, 23 VSS, 24 VDD, 25 PB12, 26 PB13, 27 PB14, 28 PB15, 29 PA8, 30 PA9, 31 PA10, 32 PA11, 33 PA12, 34 PA13, 35 VSS, 36 VDD, 37 PA14, 38 PA15, 39 PB3, 40 PB4, 41 PB5, 42 PB6, 43 PB7, 44 BOOT0, 45 PB8, 46 PB9, 47 VSS, 48 VDD, 49 VSS

## STM32L151CCTx
designator *  value STM32L151CCTx  Reference: U
STMicroelectronics Arm Cortex-M3 MCU, 256KB flash, 32KB RAM, 32 MHz, 1.65-3.6V, 37 GPIO, LQFP48; ki_keywords: Arm Cortex-M3 STM32L1 STM32L151/152; ki_fp_filters: LQFP*7x7mm*P0.5mm*; Footprint: Package_QFP:LQFP-48_7x7mm_P0.5mm; Datasheet: https://www.st.com/resource/en/datasheet/stm32l151cc.pdf; Description_: STMicroelectronics Arm Cortex-M3 MCU, 256KB flash, 32KB RAM, 32 MHz, 1.65-3.6V, 37 GPIO, LQFP48
pins: 1 VLCD, 2 PC13, 3 PC14, 4 PC15, 5 PH0, 6 PH1, 7 NRST, 8 VSSA, 9 VDDA, 10 PA0, 11 PA1, 12 PA2, 13 PA3, 14 PA4, 15 PA5, 16 PA6, 17 PA7, 18 PB0, 19 PB1, 20 PB2, 21 PB10, 22 PB11, 23 VSS, 24 VDD, 25 PB12, 26 PB13, 27 PB14, 28 PB15, 29 PA8, 30 PA9, 31 PA10, 32 PA11, 33 PA12, 34 PA13, 35 VSS, 36 VDD, 37 PA14, 38 PA15, 39 PB3, 40 PB4, 41 PB5, 42 PB6, 43 PB7, 44 BOOT0, 45 PB8, 46 PB9, 47 VSS, 48 VDD

## STM32L151CCUx
designator *  value STM32L151CCUx  Reference: U
STMicroelectronics Arm Cortex-M3 MCU, 256KB flash, 32KB RAM, 32 MHz, 1.65-3.6V, 37 GPIO, UFQFPN48; ki_keywords: Arm Cortex-M3 STM32L1 STM32L151/152; ki_fp_filters: QFN*1EP*7x7mm*P0.5mm*; Footprint: Package_DFN_QFN:QFN-48-1EP_7x7mm_P0.5mm_EP5.6x5.6mm; Datasheet: https://www.st.com/resource/en/datasheet/stm32l151cc.pdf; Description_: STMicroelectronics Arm Cortex-M3 MCU, 256KB flash, 32KB RAM, 32 MHz, 1.65-3.6V, 37 GPIO, UFQFPN48
pins: 1 VLCD, 2 PC13, 3 PC14, 4 PC15, 5 PH0, 6 PH1, 7 NRST, 8 VSSA, 9 VDDA, 10 PA0, 11 PA1, 12 PA2, 13 PA3, 14 PA4, 15 PA5, 16 PA6, 17 PA7, 18 PB0, 19 PB1, 20 PB2, 21 PB10, 22 PB11, 23 VSS, 24 VDD, 25 PB12, 26 PB13, 27 PB14, 28 PB15, 29 PA8, 30 PA9, 31 PA10, 32 PA11, 33 PA12, 34 PA13, 35 VSS, 36 VDD, 37 PA14, 38 PA15, 39 PB3, 40 PB4, 41 PB5, 42 PB6, 43 PB7, 44 BOOT0, 45 PB8, 46 PB9, 47 VSS, 48 VDD, 49 VSS

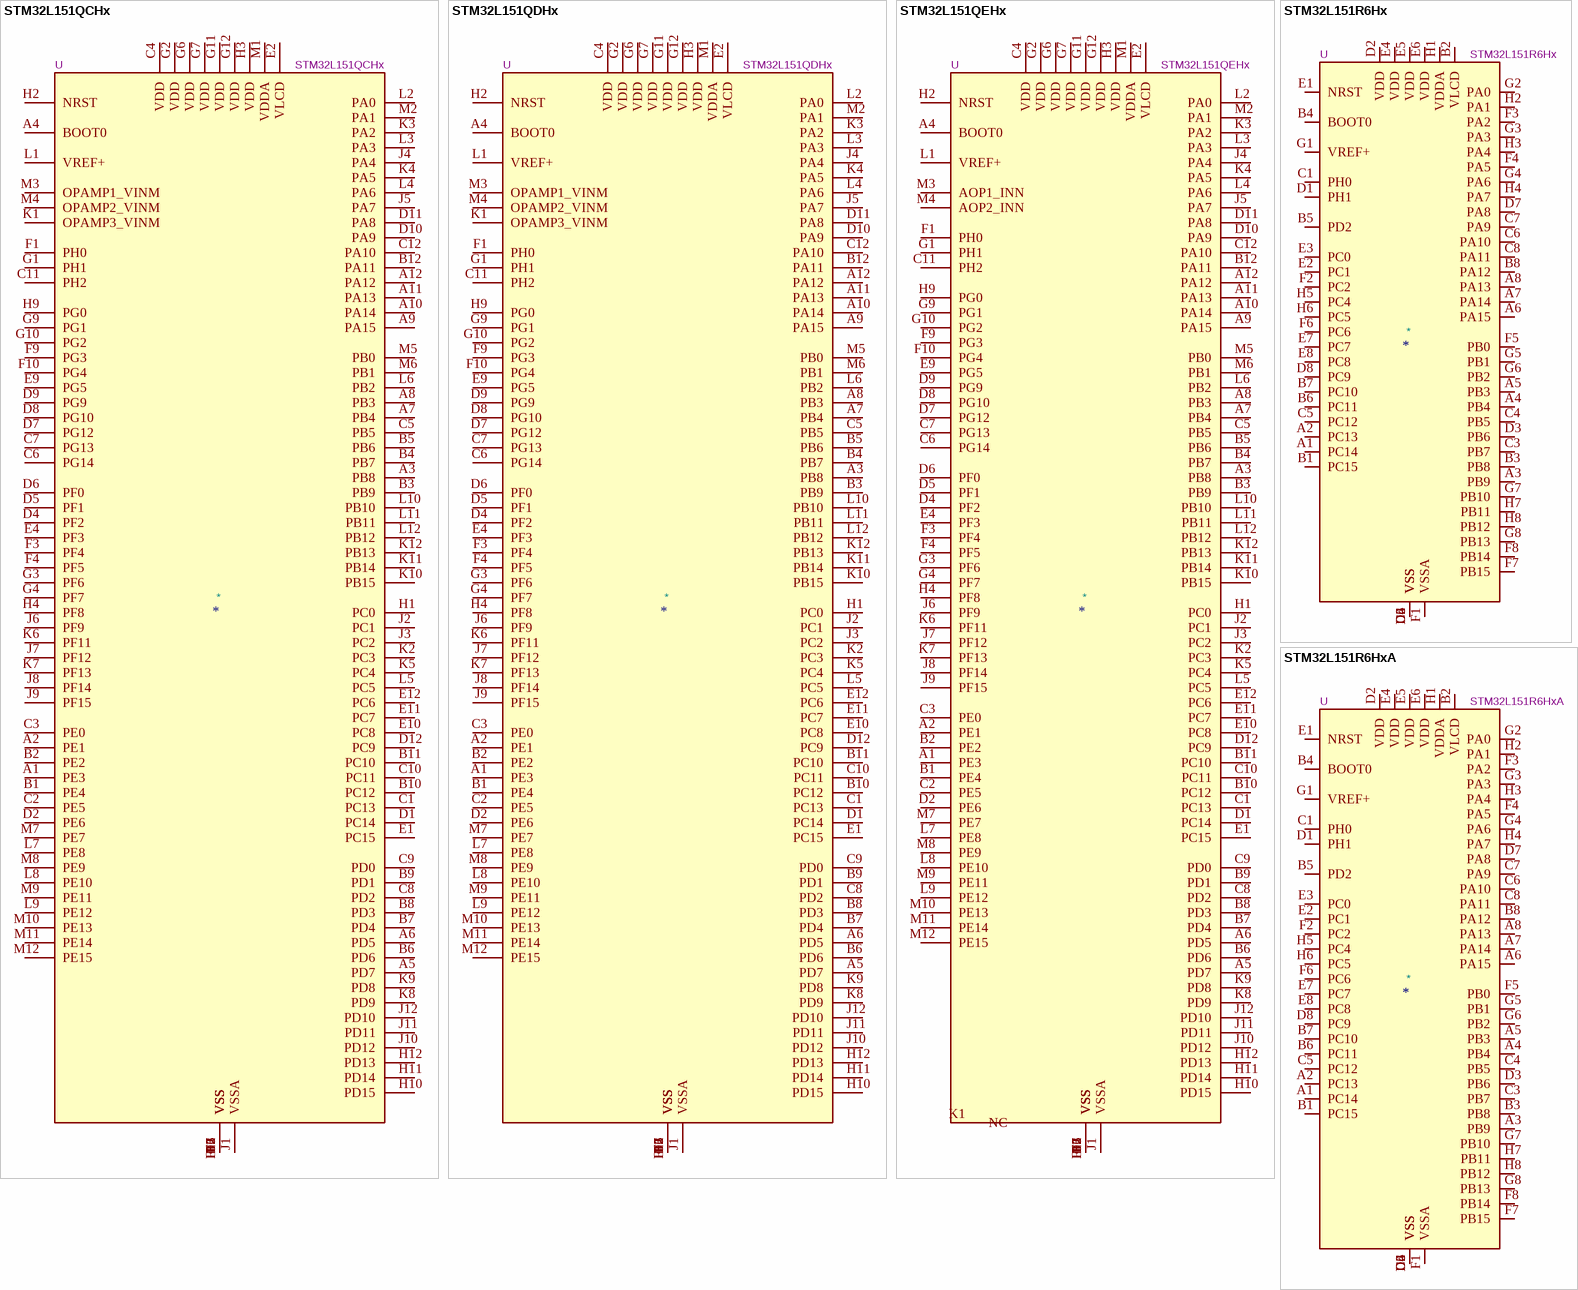
[diagram p3: symbols STM32L151QCHx to STM32L151R6HxA]

## STM32L151QCHx
designator *  value STM32L151QCHx  Reference: U
STMicroelectronics Arm Cortex-M3 MCU, 256KB flash, 32KB RAM, 32 MHz, 1.65-3.6V, 112 GPIO, UFBGA132; ki_keywords: Arm Cortex-M3 STM32L1 STM32L151/152; ki_fp_filters: UFBGA*7x7mm*Layout12x12*P0.5mm*; Footprint: Package_BGA:UFBGA-132_7x7mm_Layout12x12_P0.5mm; Datasheet: https://www.st.com/resource/en/datasheet/stm32l151qc.pdf; Description_: STMicroelectronics Arm Cortex-M3 MCU, 256KB flash, 32KB RAM, 32 MHz, 1.65-3.6V, 112 GPIO, UFBGA132
pins: A1 PE3, A2 PE1, A3 PB8, A4 BOOT0, A5 PD7, A6 PD5, A7 PB4, A8 PB3, A9 PA15, A10 PA14, A11 PA13, A12 PA12, B1 PE4, B2 PE2, B3 PB9, B4 PB7, B5 PB6, B6 PD6, B7 PD4, B8 PD3, B9 PD1, B10 PC12, B11 PC10, B12 PA11, C1 PC13, C2 PE5, C3 PE0, C4 VDD, C5 PB5, C6 PG14, C7 PG13, C8 PD2, C9 PD0, C10 PC11, C11 PH2, C12 PA10, D1 PC14, D2 PE6, D3 VSS, D4 PF2, D5 PF1, D6 PF0, D7 PG12, D8 PG10, D9 PG9, D10 PA9, D11 PA8, D12 PC9, E1 PC15, E2 VLCD, E3 VSS, E4 PF3, E9 PG5, E10 PC8, E11 PC7, E12 PC6, F1 PH0, F2 VSS, F3 PF4, F4 PF5, F6 VSS, F7 VSS, F9 PG3, F10 PG4, F11 VSS, F12 VSS, G1 PH1, G2 VDD, G3 PF6, G4 PF7, G6 VDD, G7 VDD, G9 PG1, G10 PG2, G11 VDD, G12 VDD, H1 PC0, H2 NRST, H3 VDD, H4 PF8, H9 PG0, H10 PD15, H11 PD14, H12 PD13, J1 VSSA, J2 PC1, J3 PC2, J4 PA4, J5 PA7, J6 PF9, J7 PF12, J8 PF14, J9 PF15, J10 PD12, J11 PD11, J12 PD10, K1 OPAMP3_VINM, K2 PC3, K3 PA2, K4 PA5, K5 PC4, K6 PF11, K7 PF13, K8 PD9, K9 PD8, K10 PB15, K11 PB14, K12 PB13, L1 VREF+, L2 PA0, L3 PA3, L4 PA6, L5 PC5, L6 PB2, L7 PE8, L8 PE10, L9 PE12, L10 PB10, L11 PB11, L12 PB12, M1 VDDA, M2 PA1, M3 OPAMP1_VINM, M4 OPAMP2_VINM, M5 PB0, M6 PB1, M7 PE7, M8 PE9, M9 PE11, M10 PE13, M11 PE14, M12 PE15

## STM32L151QDHx
designator *  value STM32L151QDHx  Reference: U
STMicroelectronics Arm Cortex-M3 MCU, 384KB flash, 48KB RAM, 32 MHz, 1.65-3.6V, 112 GPIO, UFBGA132; ki_keywords: Arm Cortex-M3 STM32L1 STM32L151/152; ki_fp_filters: UFBGA*7x7mm*Layout12x12*P0.5mm*; Footprint: Package_BGA:UFBGA-132_7x7mm_Layout12x12_P0.5mm; Datasheet: https://www.st.com/resource/en/datasheet/stm32l151qd.pdf; Description_: STMicroelectronics Arm Cortex-M3 MCU, 384KB flash, 48KB RAM, 32 MHz, 1.65-3.6V, 112 GPIO, UFBGA132
pins: A1 PE3, A2 PE1, A3 PB8, A4 BOOT0, A5 PD7, A6 PD5, A7 PB4, A8 PB3, A9 PA15, A10 PA14, A11 PA13, A12 PA12, B1 PE4, B2 PE2, B3 PB9, B4 PB7, B5 PB6, B6 PD6, B7 PD4, B8 PD3, B9 PD1, B10 PC12, B11 PC10, B12 PA11, C1 PC13, C2 PE5, C3 PE0, C4 VDD, C5 PB5, C6 PG14, C7 PG13, C8 PD2, C9 PD0, C10 PC11, C11 PH2, C12 PA10, D1 PC14, D2 PE6, D3 VSS, D4 PF2, D5 PF1, D6 PF0, D7 PG12, D8 PG10, D9 PG9, D10 PA9, D11 PA8, D12 PC9, E1 PC15, E2 VLCD, E3 VSS, E4 PF3, E9 PG5, E10 PC8, E11 PC7, E12 PC6, F1 PH0, F2 VSS, F3 PF4, F4 PF5, F6 VSS, F7 VSS, F9 PG3, F10 PG4, F11 VSS, F12 VSS, G1 PH1, G2 VDD, G3 PF6, G4 PF7, G6 VDD, G7 VDD, G9 PG1, G10 PG2, G11 VDD, G12 VDD, H1 PC0, H2 NRST, H3 VDD, H4 PF8, H9 PG0, H10 PD15, H11 PD14, H12 PD13, J1 VSSA, J2 PC1, J3 PC2, J4 PA4, J5 PA7, J6 PF9, J7 PF12, J8 PF14, J9 PF15, J10 PD12, J11 PD11, J12 PD10, K1 OPAMP3_VINM, K2 PC3, K3 PA2, K4 PA5, K5 PC4, K6 PF11, K7 PF13, K8 PD9, K9 PD8, K10 PB15, K11 PB14, K12 PB13, L1 VREF+, L2 PA0, L3 PA3, L4 PA6, L5 PC5, L6 PB2, L7 PE8, L8 PE10, L9 PE12, L10 PB10, L11 PB11, L12 PB12, M1 VDDA, M2 PA1, M3 OPAMP1_VINM, M4 OPAMP2_VINM, M5 PB0, M6 PB1, M7 PE7, M8 PE9, M9 PE11, M10 PE13, M11 PE14, M12 PE15

## STM32L151QEHx
designator *  value STM32L151QEHx  Reference: U
STMicroelectronics Arm Cortex-M3 MCU, 512KB flash, 80KB RAM, 32 MHz, 1.65-3.6V, 111 GPIO, UFBGA132; ki_keywords: Arm Cortex-M3 STM32L1 STM32L151/152; ki_fp_filters: UFBGA*7x7mm*Layout12x12*P0.5mm*; Footprint: Package_BGA:UFBGA-132_7x7mm_Layout12x12_P0.5mm; Datasheet: https://www.st.com/resource/en/datasheet/stm32l151qe.pdf; Description_: STMicroelectronics Arm Cortex-M3 MCU, 512KB flash, 80KB RAM, 32 MHz, 1.65-3.6V, 111 GPIO, UFBGA132
pins: A1 PE3, A2 PE1, A3 PB8, A4 BOOT0, A5 PD7, A6 PD5, A7 PB4, A8 PB3, A9 PA15, A10 PA14, A11 PA13, A12 PA12, B1 PE4, B2 PE2, B3 PB9, B4 PB7, B5 PB6, B6 PD6, B7 PD4, B8 PD3, B9 PD1, B10 PC12, B11 PC10, B12 PA11, C1 PC13, C2 PE5, C3 PE0, C4 VDD, C5 PB5, C6 PG14, C7 PG13, C8 PD2, C9 PD0, C10 PC11, C11 PH2, C12 PA10, D1 PC14, D2 PE6, D3 VSS, D4 PF2, D5 PF1, D6 PF0, D7 PG12, D8 PG10, D9 PG9, D10 PA9, D11 PA8, D12 PC9, E1 PC15, E2 VLCD, E3 VSS, E4 PF3, E9 PG5, E10 PC8, E11 PC7, E12 PC6, F1 PH0, F2 VSS, F3 PF4, F4 PF5, F6 VSS, F7 VSS, F9 PG3, F10 PG4, F11 VSS, F12 VSS, G1 PH1, G2 VDD, G3 PF6, G4 PF7, G6 VDD, G7 VDD, G9 PG1, G10 PG2, G11 VDD, G12 VDD, H1 PC0, H2 NRST, H3 VDD, H4 PF8, H9 PG0, H10 PD15, H11 PD14, H12 PD13, J1 VSSA, J2 PC1, J3 PC2, J4 PA4, J5 PA7, J6 PF9, J7 PF12, J8 PF14, J9 PF15, J10 PD12, J11 PD11, J12 PD10, K1 NC, K2 PC3, K3 PA2, K4 PA5, K5 PC4, K6 PF11, K7 PF13, K8 PD9, K9 PD8, K10 PB15, K11 PB14, K12 PB13, L1 VREF+, L2 PA0, L3 PA3, L4 PA6, L5 PC5, L6 PB2, L7 PE8, L8 PE10, L9 PE12, L10 PB10, L11 PB11, L12 PB12, M1 VDDA, M2 PA1, M3 AOP1_INN, M4 AOP2_INN, M5 PB0, M6 PB1, M7 PE7, M8 PE9, M9 PE11, M10 PE13, M11 PE14, M12 PE15

## STM32L151R6Hx
designator *  value STM32L151R6Hx  Reference: U
STMicroelectronics Arm Cortex-M3 MCU, 32KB flash, 10KB RAM, 32 MHz, 1.65-3.6V, 50 GPIO, TFBGA64; ki_keywords: Arm Cortex-M3 STM32L1 STM32L151/152; ki_fp_filters: TFBGA*5x5mm*Layout8x8*P0.5mm*; Footprint: Package_BGA:TFBGA-64_5x5mm_Layout8x8_P0.5mm; Datasheet: https://www.st.com/resource/en/datasheet/stm32l151r6.pdf; Description_: STMicroelectronics Arm Cortex-M3 MCU, 32KB flash, 10KB RAM, 32 MHz, 1.65-3.6V, 50 GPIO, TFBGA64
pins: A1 PC14, A2 PC13, A3 PB9, A4 PB4, A5 PB3, A6 PA15, A7 PA14, A8 PA13, B1 PC15, B2 VLCD, B3 PB8, B4 BOOT0, B5 PD2, B6 PC11, B7 PC10, B8 PA12, C1 PH0, C2 VSS, C3 PB7, C4 PB5, C5 PC12, C6 PA10, C7 PA9, C8 PA11, D1 PH1, D2 VDD, D3 PB6, D4 VSS, D5 VSS, D6 VSS, D7 PA8, D8 PC9, E1 NRST, E2 PC1, E3 PC0, E4 VDD, E5 VDD, E6 VDD, E7 PC7, E8 PC8, F1 VSSA, F2 PC2, F3 PA2, F4 PA5, F5 PB0, F6 PC6, F7 PB15, F8 PB14, G1 VREF+, G2 PA0, G3 PA3, G4 PA6, G5 PB1, G6 PB2, G7 PB10, G8 PB13, H1 VDDA, H2 PA1, H3 PA4, H4 PA7, H5 PC4, H6 PC5, H7 PB11, H8 PB12

## STM32L151R6HxA
designator *  value STM32L151R6HxA  Reference: U
STMicroelectronics Arm Cortex-M3 MCU, 32KB flash, 16KB RAM, 32 MHz, 1.65-3.6V, 50 GPIO, TFBGA64; ki_keywords: Arm Cortex-M3 STM32L1 STM32L151/152; ki_fp_filters: TFBGA*5x5mm*Layout8x8*P0.5mm*; Footprint: Package_BGA:TFBGA-64_5x5mm_Layout8x8_P0.5mm; Datasheet: https://www.st.com/resource/en/datasheet/stm32l151r6-a.pdf; Description_: STMicroelectronics Arm Cortex-M3 MCU, 32KB flash, 16KB RAM, 32 MHz, 1.65-3.6V, 50 GPIO, TFBGA64
pins: A1 PC14, A2 PC13, A3 PB9, A4 PB4, A5 PB3, A6 PA15, A7 PA14, A8 PA13, B1 PC15, B2 VLCD, B3 PB8, B4 BOOT0, B5 PD2, B6 PC11, B7 PC10, B8 PA12, C1 PH0, C2 VSS, C3 PB7, C4 PB5, C5 PC12, C6 PA10, C7 PA9, C8 PA11, D1 PH1, D2 VDD, D3 PB6, D4 VSS, D5 VSS, D6 VSS, D7 PA8, D8 PC9, E1 NRST, E2 PC1, E3 PC0, E4 VDD, E5 VDD, E6 VDD, E7 PC7, E8 PC8, F1 VSSA, F2 PC2, F3 PA2, F4 PA5, F5 PB0, F6 PC6, F7 PB15, F8 PB14, G1 VREF+, G2 PA0, G3 PA3, G4 PA6, G5 PB1, G6 PB2, G7 PB10, G8 PB13, H1 VDDA, H2 PA1, H3 PA4, H4 PA7, H5 PC4, H6 PC5, H7 PB11, H8 PB12

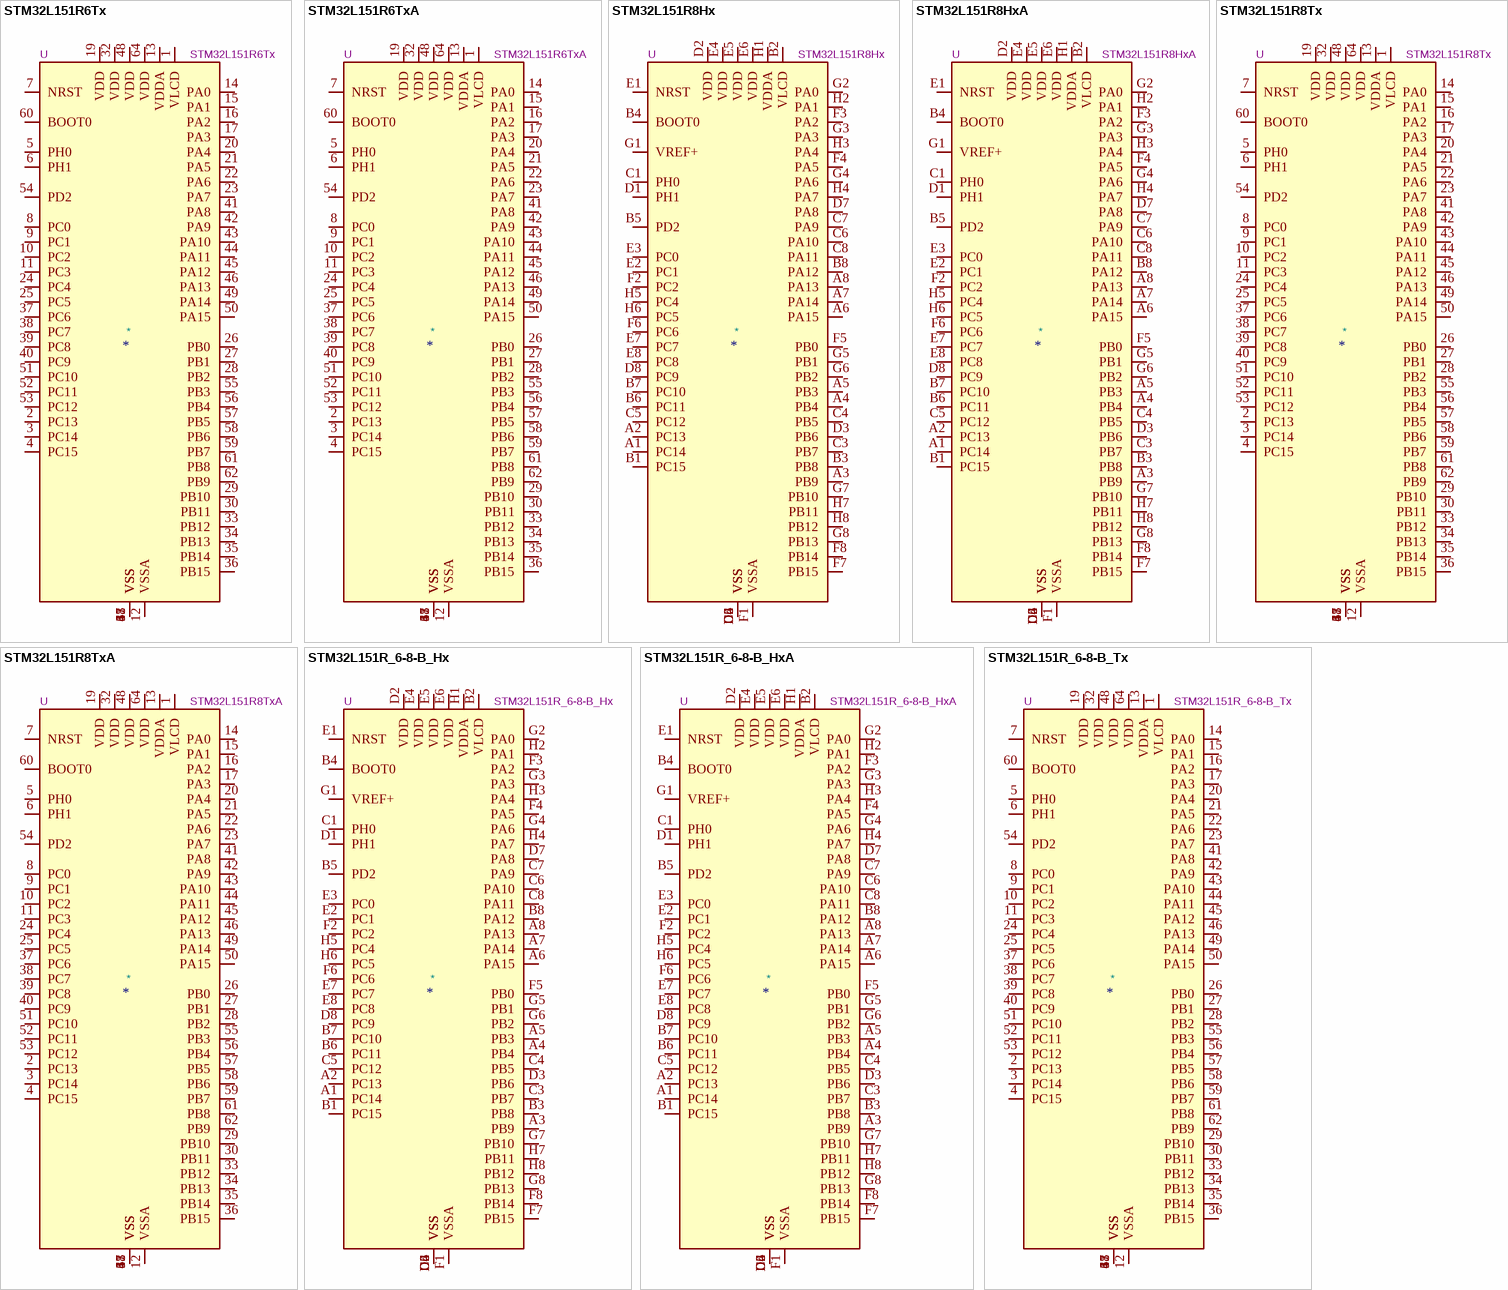
[diagram p4: symbols STM32L151R6Tx to STM32L151R_6-8-B_Tx]

## STM32L151R6Tx
designator *  value STM32L151R6Tx  Reference: U
STMicroelectronics Arm Cortex-M3 MCU, 32KB flash, 10KB RAM, 32 MHz, 1.65-3.6V, 51 GPIO, LQFP64; ki_keywords: Arm Cortex-M3 STM32L1 STM32L151/152; ki_fp_filters: LQFP*10x10mm*P0.5mm*; Footprint: Package_QFP:LQFP-64_10x10mm_P0.5mm; Datasheet: https://www.st.com/resource/en/datasheet/stm32l151r6.pdf; Description_: STMicroelectronics Arm Cortex-M3 MCU, 32KB flash, 10KB RAM, 32 MHz, 1.65-3.6V, 51 GPIO, LQFP64
pins: 1 VLCD, 2 PC13, 3 PC14, 4 PC15, 5 PH0, 6 PH1, 7 NRST, 8 PC0, 9 PC1, 10 PC2, 11 PC3, 12 VSSA, 13 VDDA, 14 PA0, 15 PA1, 16 PA2, 17 PA3, 18 VSS, 19 VDD, 20 PA4, 21 PA5, 22 PA6, 23 PA7, 24 PC4, 25 PC5, 26 PB0, 27 PB1, 28 PB2, 29 PB10, 30 PB11, 31 VSS, 32 VDD, 33 PB12, 34 PB13, 35 PB14, 36 PB15, 37 PC6, 38 PC7, 39 PC8, 40 PC9, 41 PA8, 42 PA9, 43 PA10, 44 PA11, 45 PA12, 46 PA13, 47 VSS, 48 VDD, 49 PA14, 50 PA15, 51 PC10, 52 PC11, 53 PC12, 54 PD2, 55 PB3, 56 PB4, 57 PB5, 58 PB6, 59 PB7, 60 BOOT0, 61 PB8, 62 PB9, 63 VSS, 64 VDD

## STM32L151R6TxA
designator *  value STM32L151R6TxA  Reference: U
STMicroelectronics Arm Cortex-M3 MCU, 32KB flash, 16KB RAM, 32 MHz, 1.65-3.6V, 51 GPIO, LQFP64; ki_keywords: Arm Cortex-M3 STM32L1 STM32L151/152; ki_fp_filters: LQFP*10x10mm*P0.5mm*; Footprint: Package_QFP:LQFP-64_10x10mm_P0.5mm; Datasheet: https://www.st.com/resource/en/datasheet/stm32l151r6-a.pdf; Description_: STMicroelectronics Arm Cortex-M3 MCU, 32KB flash, 16KB RAM, 32 MHz, 1.65-3.6V, 51 GPIO, LQFP64
pins: 1 VLCD, 2 PC13, 3 PC14, 4 PC15, 5 PH0, 6 PH1, 7 NRST, 8 PC0, 9 PC1, 10 PC2, 11 PC3, 12 VSSA, 13 VDDA, 14 PA0, 15 PA1, 16 PA2, 17 PA3, 18 VSS, 19 VDD, 20 PA4, 21 PA5, 22 PA6, 23 PA7, 24 PC4, 25 PC5, 26 PB0, 27 PB1, 28 PB2, 29 PB10, 30 PB11, 31 VSS, 32 VDD, 33 PB12, 34 PB13, 35 PB14, 36 PB15, 37 PC6, 38 PC7, 39 PC8, 40 PC9, 41 PA8, 42 PA9, 43 PA10, 44 PA11, 45 PA12, 46 PA13, 47 VSS, 48 VDD, 49 PA14, 50 PA15, 51 PC10, 52 PC11, 53 PC12, 54 PD2, 55 PB3, 56 PB4, 57 PB5, 58 PB6, 59 PB7, 60 BOOT0, 61 PB8, 62 PB9, 63 VSS, 64 VDD

## STM32L151R8Hx
designator *  value STM32L151R8Hx  Reference: U
STMicroelectronics Arm Cortex-M3 MCU, 64KB flash, 10KB RAM, 32 MHz, 1.65-3.6V, 50 GPIO, TFBGA64; ki_keywords: Arm Cortex-M3 STM32L1 STM32L151/152; ki_fp_filters: TFBGA*5x5mm*Layout8x8*P0.5mm*; Footprint: Package_BGA:TFBGA-64_5x5mm_Layout8x8_P0.5mm; Datasheet: https://www.st.com/resource/en/datasheet/stm32l151r8.pdf; Description_: STMicroelectronics Arm Cortex-M3 MCU, 64KB flash, 10KB RAM, 32 MHz, 1.65-3.6V, 50 GPIO, TFBGA64
pins: A1 PC14, A2 PC13, A3 PB9, A4 PB4, A5 PB3, A6 PA15, A7 PA14, A8 PA13, B1 PC15, B2 VLCD, B3 PB8, B4 BOOT0, B5 PD2, B6 PC11, B7 PC10, B8 PA12, C1 PH0, C2 VSS, C3 PB7, C4 PB5, C5 PC12, C6 PA10, C7 PA9, C8 PA11, D1 PH1, D2 VDD, D3 PB6, D4 VSS, D5 VSS, D6 VSS, D7 PA8, D8 PC9, E1 NRST, E2 PC1, E3 PC0, E4 VDD, E5 VDD, E6 VDD, E7 PC7, E8 PC8, F1 VSSA, F2 PC2, F3 PA2, F4 PA5, F5 PB0, F6 PC6, F7 PB15, F8 PB14, G1 VREF+, G2 PA0, G3 PA3, G4 PA6, G5 PB1, G6 PB2, G7 PB10, G8 PB13, H1 VDDA, H2 PA1, H3 PA4, H4 PA7, H5 PC4, H6 PC5, H7 PB11, H8 PB12

## STM32L151R8HxA
designator *  value STM32L151R8HxA  Reference: U
STMicroelectronics Arm Cortex-M3 MCU, 64KB flash, 32KB RAM, 32 MHz, 1.65-3.6V, 50 GPIO, TFBGA64; ki_keywords: Arm Cortex-M3 STM32L1 STM32L151/152; ki_fp_filters: TFBGA*5x5mm*Layout8x8*P0.5mm*; Footprint: Package_BGA:TFBGA-64_5x5mm_Layout8x8_P0.5mm; Datasheet: https://www.st.com/resource/en/datasheet/stm32l151r8-a.pdf; Description_: STMicroelectronics Arm Cortex-M3 MCU, 64KB flash, 32KB RAM, 32 MHz, 1.65-3.6V, 50 GPIO, TFBGA64
pins: A1 PC14, A2 PC13, A3 PB9, A4 PB4, A5 PB3, A6 PA15, A7 PA14, A8 PA13, B1 PC15, B2 VLCD, B3 PB8, B4 BOOT0, B5 PD2, B6 PC11, B7 PC10, B8 PA12, C1 PH0, C2 VSS, C3 PB7, C4 PB5, C5 PC12, C6 PA10, C7 PA9, C8 PA11, D1 PH1, D2 VDD, D3 PB6, D4 VSS, D5 VSS, D6 VSS, D7 PA8, D8 PC9, E1 NRST, E2 PC1, E3 PC0, E4 VDD, E5 VDD, E6 VDD, E7 PC7, E8 PC8, F1 VSSA, F2 PC2, F3 PA2, F4 PA5, F5 PB0, F6 PC6, F7 PB15, F8 PB14, G1 VREF+, G2 PA0, G3 PA3, G4 PA6, G5 PB1, G6 PB2, G7 PB10, G8 PB13, H1 VDDA, H2 PA1, H3 PA4, H4 PA7, H5 PC4, H6 PC5, H7 PB11, H8 PB12

## STM32L151R8Tx
designator *  value STM32L151R8Tx  Reference: U
STMicroelectronics Arm Cortex-M3 MCU, 64KB flash, 10KB RAM, 32 MHz, 1.65-3.6V, 51 GPIO, LQFP64; ki_keywords: Arm Cortex-M3 STM32L1 STM32L151/152; ki_fp_filters: LQFP*10x10mm*P0.5mm*; Footprint: Package_QFP:LQFP-64_10x10mm_P0.5mm; Datasheet: https://www.st.com/resource/en/datasheet/stm32l151r8.pdf; Description_: STMicroelectronics Arm Cortex-M3 MCU, 64KB flash, 10KB RAM, 32 MHz, 1.65-3.6V, 51 GPIO, LQFP64
pins: 1 VLCD, 2 PC13, 3 PC14, 4 PC15, 5 PH0, 6 PH1, 7 NRST, 8 PC0, 9 PC1, 10 PC2, 11 PC3, 12 VSSA, 13 VDDA, 14 PA0, 15 PA1, 16 PA2, 17 PA3, 18 VSS, 19 VDD, 20 PA4, 21 PA5, 22 PA6, 23 PA7, 24 PC4, 25 PC5, 26 PB0, 27 PB1, 28 PB2, 29 PB10, 30 PB11, 31 VSS, 32 VDD, 33 PB12, 34 PB13, 35 PB14, 36 PB15, 37 PC6, 38 PC7, 39 PC8, 40 PC9, 41 PA8, 42 PA9, 43 PA10, 44 PA11, 45 PA12, 46 PA13, 47 VSS, 48 VDD, 49 PA14, 50 PA15, 51 PC10, 52 PC11, 53 PC12, 54 PD2, 55 PB3, 56 PB4, 57 PB5, 58 PB6, 59 PB7, 60 BOOT0, 61 PB8, 62 PB9, 63 VSS, 64 VDD

## STM32L151R8TxA
designator *  value STM32L151R8TxA  Reference: U
STMicroelectronics Arm Cortex-M3 MCU, 64KB flash, 32KB RAM, 32 MHz, 1.65-3.6V, 51 GPIO, LQFP64; ki_keywords: Arm Cortex-M3 STM32L1 STM32L151/152; ki_fp_filters: LQFP*10x10mm*P0.5mm*; Footprint: Package_QFP:LQFP-64_10x10mm_P0.5mm; Datasheet: https://www.st.com/resource/en/datasheet/stm32l151r8-a.pdf; Description_: STMicroelectronics Arm Cortex-M3 MCU, 64KB flash, 32KB RAM, 32 MHz, 1.65-3.6V, 51 GPIO, LQFP64
pins: 1 VLCD, 2 PC13, 3 PC14, 4 PC15, 5 PH0, 6 PH1, 7 NRST, 8 PC0, 9 PC1, 10 PC2, 11 PC3, 12 VSSA, 13 VDDA, 14 PA0, 15 PA1, 16 PA2, 17 PA3, 18 VSS, 19 VDD, 20 PA4, 21 PA5, 22 PA6, 23 PA7, 24 PC4, 25 PC5, 26 PB0, 27 PB1, 28 PB2, 29 PB10, 30 PB11, 31 VSS, 32 VDD, 33 PB12, 34 PB13, 35 PB14, 36 PB15, 37 PC6, 38 PC7, 39 PC8, 40 PC9, 41 PA8, 42 PA9, 43 PA10, 44 PA11, 45 PA12, 46 PA13, 47 VSS, 48 VDD, 49 PA14, 50 PA15, 51 PC10, 52 PC11, 53 PC12, 54 PD2, 55 PB3, 56 PB4, 57 PB5, 58 PB6, 59 PB7, 60 BOOT0, 61 PB8, 62 PB9, 63 VSS, 64 VDD

## STM32L151R_6-8-B_Hx
designator *  value STM32L151R_6-8-B_Hx  Reference: U
STMicroelectronics Arm Cortex-M3 MCU, 32-128KB flash, 10-16KB RAM, 32 MHz, 1.65-3.6V, 50 GPIO, TFBGA64; ki_keywords: Arm Cortex-M3 STM32L1 STM32L151/152; ki_fp_filters: TFBGA*5x5mm*Layout8x8*P0.5mm*; Footprint: Package_BGA:TFBGA-64_5x5mm_Layout8x8_P0.5mm; Datasheet: https://www.st.com/resource/en/datasheet/stm32l151r6.pdf; Description_: STMicroelectronics Arm Cortex-M3 MCU, 32-128KB flash, 10-16KB RAM, 32 MHz, 1.65-3.6V, 50 GPIO, TFBGA64
pins: A1 PC14, A2 PC13, A3 PB9, A4 PB4, A5 PB3, A6 PA15, A7 PA14, A8 PA13, B1 PC15, B2 VLCD, B3 PB8, B4 BOOT0, B5 PD2, B6 PC11, B7 PC10, B8 PA12, C1 PH0, C2 VSS, C3 PB7, C4 PB5, C5 PC12, C6 PA10, C7 PA9, C8 PA11, D1 PH1, D2 VDD, D3 PB6, D4 VSS, D5 VSS, D6 VSS, D7 PA8, D8 PC9, E1 NRST, E2 PC1, E3 PC0, E4 VDD, E5 VDD, E6 VDD, E7 PC7, E8 PC8, F1 VSSA, F2 PC2, F3 PA2, F4 PA5, F5 PB0, F6 PC6, F7 PB15, F8 PB14, G1 VREF+, G2 PA0, G3 PA3, G4 PA6, G5 PB1, G6 PB2, G7 PB10, G8 PB13, H1 VDDA, H2 PA1, H3 PA4, H4 PA7, H5 PC4, H6 PC5, H7 PB11, H8 PB12

## STM32L151R_6-8-B_HxA
designator *  value STM32L151R_6-8-B_HxA  Reference: U
STMicroelectronics Arm Cortex-M3 MCU, 32-128KB flash, 16-32KB RAM, 32 MHz, 1.65-3.6V, 50 GPIO, TFBGA64; ki_keywords: Arm Cortex-M3 STM32L1 STM32L151/152; ki_fp_filters: TFBGA*5x5mm*Layout8x8*P0.5mm*; Footprint: Package_BGA:TFBGA-64_5x5mm_Layout8x8_P0.5mm; Datasheet: https://www.st.com/resource/en/datasheet/stm32l151r6-a.pdf; Description_: STMicroelectronics Arm Cortex-M3 MCU, 32-128KB flash, 16-32KB RAM, 32 MHz, 1.65-3.6V, 50 GPIO, TFBGA64
pins: A1 PC14, A2 PC13, A3 PB9, A4 PB4, A5 PB3, A6 PA15, A7 PA14, A8 PA13, B1 PC15, B2 VLCD, B3 PB8, B4 BOOT0, B5 PD2, B6 PC11, B7 PC10, B8 PA12, C1 PH0, C2 VSS, C3 PB7, C4 PB5, C5 PC12, C6 PA10, C7 PA9, C8 PA11, D1 PH1, D2 VDD, D3 PB6, D4 VSS, D5 VSS, D6 VSS, D7 PA8, D8 PC9, E1 NRST, E2 PC1, E3 PC0, E4 VDD, E5 VDD, E6 VDD, E7 PC7, E8 PC8, F1 VSSA, F2 PC2, F3 PA2, F4 PA5, F5 PB0, F6 PC6, F7 PB15, F8 PB14, G1 VREF+, G2 PA0, G3 PA3, G4 PA6, G5 PB1, G6 PB2, G7 PB10, G8 PB13, H1 VDDA, H2 PA1, H3 PA4, H4 PA7, H5 PC4, H6 PC5, H7 PB11, H8 PB12

## STM32L151R_6-8-B_Tx
designator *  value STM32L151R_6-8-B_Tx  Reference: U
STMicroelectronics Arm Cortex-M3 MCU, 32-128KB flash, 10-16KB RAM, 32 MHz, 1.65-3.6V, 51 GPIO, LQFP64; ki_keywords: Arm Cortex-M3 STM32L1 STM32L151/152; ki_fp_filters: LQFP*10x10mm*P0.5mm*; Footprint: Package_QFP:LQFP-64_10x10mm_P0.5mm; Datasheet: https://www.st.com/resource/en/datasheet/stm32l151r6.pdf; Description_: STMicroelectronics Arm Cortex-M3 MCU, 32-128KB flash, 10-16KB RAM, 32 MHz, 1.65-3.6V, 51 GPIO, LQFP64
pins: 1 VLCD, 2 PC13, 3 PC14, 4 PC15, 5 PH0, 6 PH1, 7 NRST, 8 PC0, 9 PC1, 10 PC2, 11 PC3, 12 VSSA, 13 VDDA, 14 PA0, 15 PA1, 16 PA2, 17 PA3, 18 VSS, 19 VDD, 20 PA4, 21 PA5, 22 PA6, 23 PA7, 24 PC4, 25 PC5, 26 PB0, 27 PB1, 28 PB2, 29 PB10, 30 PB11, 31 VSS, 32 VDD, 33 PB12, 34 PB13, 35 PB14, 36 PB15, 37 PC6, 38 PC7, 39 PC8, 40 PC9, 41 PA8, 42 PA9, 43 PA10, 44 PA11, 45 PA12, 46 PA13, 47 VSS, 48 VDD, 49 PA14, 50 PA15, 51 PC10, 52 PC11, 53 PC12, 54 PD2, 55 PB3, 56 PB4, 57 PB5, 58 PB6, 59 PB7, 60 BOOT0, 61 PB8, 62 PB9, 63 VSS, 64 VDD

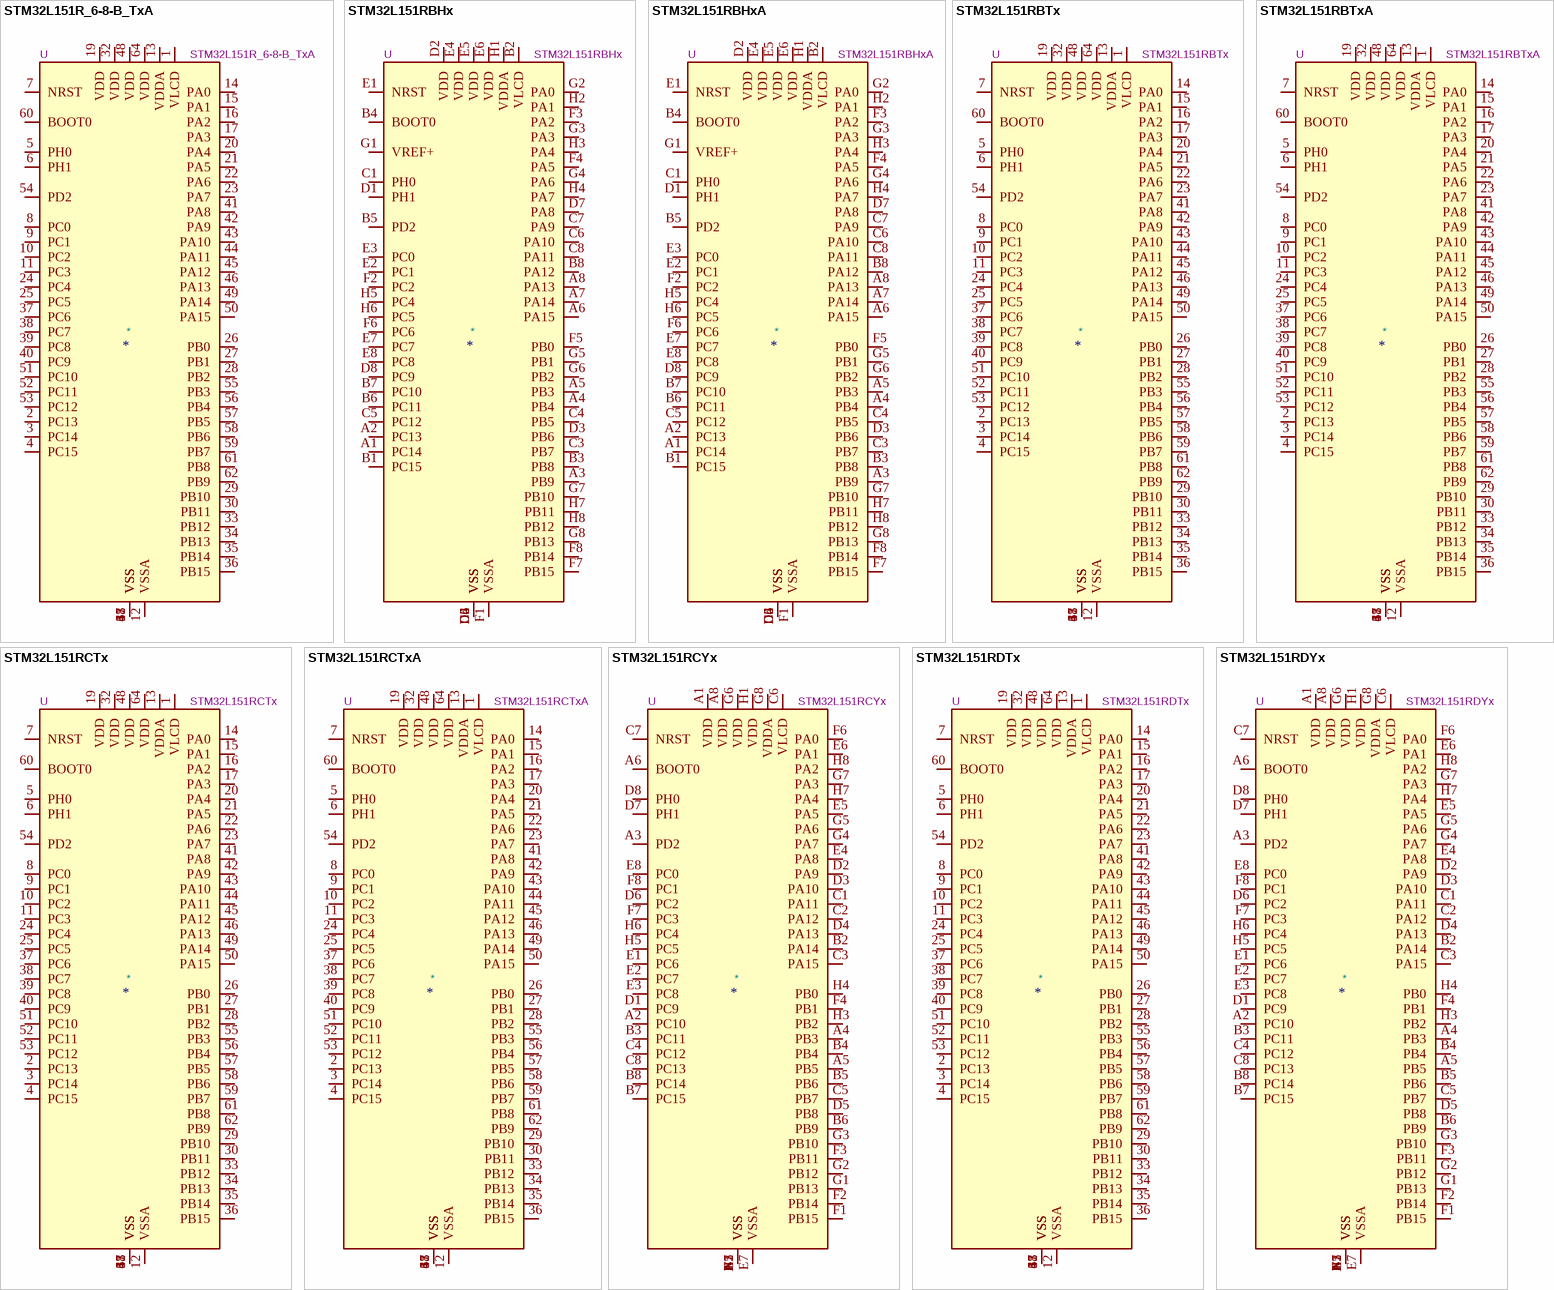
[diagram p5: symbols STM32L151R_6-8-B_TxA to STM32L151RDYx]

## STM32L151R_6-8-B_TxA
designator *  value STM32L151R_6-8-B_TxA  Reference: U
STMicroelectronics Arm Cortex-M3 MCU, 32-128KB flash, 16-32KB RAM, 32 MHz, 1.65-3.6V, 51 GPIO, LQFP64; ki_keywords: Arm Cortex-M3 STM32L1 STM32L151/152; ki_fp_filters: LQFP*10x10mm*P0.5mm*; Footprint: Package_QFP:LQFP-64_10x10mm_P0.5mm; Datasheet: https://www.st.com/resource/en/datasheet/stm32l151r6-a.pdf; Description_: STMicroelectronics Arm Cortex-M3 MCU, 32-128KB flash, 16-32KB RAM, 32 MHz, 1.65-3.6V, 51 GPIO, LQFP64
pins: 1 VLCD, 2 PC13, 3 PC14, 4 PC15, 5 PH0, 6 PH1, 7 NRST, 8 PC0, 9 PC1, 10 PC2, 11 PC3, 12 VSSA, 13 VDDA, 14 PA0, 15 PA1, 16 PA2, 17 PA3, 18 VSS, 19 VDD, 20 PA4, 21 PA5, 22 PA6, 23 PA7, 24 PC4, 25 PC5, 26 PB0, 27 PB1, 28 PB2, 29 PB10, 30 PB11, 31 VSS, 32 VDD, 33 PB12, 34 PB13, 35 PB14, 36 PB15, 37 PC6, 38 PC7, 39 PC8, 40 PC9, 41 PA8, 42 PA9, 43 PA10, 44 PA11, 45 PA12, 46 PA13, 47 VSS, 48 VDD, 49 PA14, 50 PA15, 51 PC10, 52 PC11, 53 PC12, 54 PD2, 55 PB3, 56 PB4, 57 PB5, 58 PB6, 59 PB7, 60 BOOT0, 61 PB8, 62 PB9, 63 VSS, 64 VDD

## STM32L151RBHx
designator *  value STM32L151RBHx  Reference: U
STMicroelectronics Arm Cortex-M3 MCU, 128KB flash, 16KB RAM, 32 MHz, 1.65-3.6V, 50 GPIO, TFBGA64; ki_keywords: Arm Cortex-M3 STM32L1 STM32L151/152; ki_fp_filters: TFBGA*5x5mm*Layout8x8*P0.5mm*; Footprint: Package_BGA:TFBGA-64_5x5mm_Layout8x8_P0.5mm; Datasheet: https://www.st.com/resource/en/datasheet/stm32l151rb.pdf; Description_: STMicroelectronics Arm Cortex-M3 MCU, 128KB flash, 16KB RAM, 32 MHz, 1.65-3.6V, 50 GPIO, TFBGA64
pins: A1 PC14, A2 PC13, A3 PB9, A4 PB4, A5 PB3, A6 PA15, A7 PA14, A8 PA13, B1 PC15, B2 VLCD, B3 PB8, B4 BOOT0, B5 PD2, B6 PC11, B7 PC10, B8 PA12, C1 PH0, C2 VSS, C3 PB7, C4 PB5, C5 PC12, C6 PA10, C7 PA9, C8 PA11, D1 PH1, D2 VDD, D3 PB6, D4 VSS, D5 VSS, D6 VSS, D7 PA8, D8 PC9, E1 NRST, E2 PC1, E3 PC0, E4 VDD, E5 VDD, E6 VDD, E7 PC7, E8 PC8, F1 VSSA, F2 PC2, F3 PA2, F4 PA5, F5 PB0, F6 PC6, F7 PB15, F8 PB14, G1 VREF+, G2 PA0, G3 PA3, G4 PA6, G5 PB1, G6 PB2, G7 PB10, G8 PB13, H1 VDDA, H2 PA1, H3 PA4, H4 PA7, H5 PC4, H6 PC5, H7 PB11, H8 PB12

## STM32L151RBHxA
designator *  value STM32L151RBHxA  Reference: U
STMicroelectronics Arm Cortex-M3 MCU, 128KB flash, 32KB RAM, 32 MHz, 1.65-3.6V, 50 GPIO, TFBGA64; ki_keywords: Arm Cortex-M3 STM32L1 STM32L151/152; ki_fp_filters: TFBGA*5x5mm*Layout8x8*P0.5mm*; Footprint: Package_BGA:TFBGA-64_5x5mm_Layout8x8_P0.5mm; Datasheet: https://www.st.com/resource/en/datasheet/stm32l151rb-a.pdf; Description_: STMicroelectronics Arm Cortex-M3 MCU, 128KB flash, 32KB RAM, 32 MHz, 1.65-3.6V, 50 GPIO, TFBGA64
pins: A1 PC14, A2 PC13, A3 PB9, A4 PB4, A5 PB3, A6 PA15, A7 PA14, A8 PA13, B1 PC15, B2 VLCD, B3 PB8, B4 BOOT0, B5 PD2, B6 PC11, B7 PC10, B8 PA12, C1 PH0, C2 VSS, C3 PB7, C4 PB5, C5 PC12, C6 PA10, C7 PA9, C8 PA11, D1 PH1, D2 VDD, D3 PB6, D4 VSS, D5 VSS, D6 VSS, D7 PA8, D8 PC9, E1 NRST, E2 PC1, E3 PC0, E4 VDD, E5 VDD, E6 VDD, E7 PC7, E8 PC8, F1 VSSA, F2 PC2, F3 PA2, F4 PA5, F5 PB0, F6 PC6, F7 PB15, F8 PB14, G1 VREF+, G2 PA0, G3 PA3, G4 PA6, G5 PB1, G6 PB2, G7 PB10, G8 PB13, H1 VDDA, H2 PA1, H3 PA4, H4 PA7, H5 PC4, H6 PC5, H7 PB11, H8 PB12

## STM32L151RBTx
designator *  value STM32L151RBTx  Reference: U
STMicroelectronics Arm Cortex-M3 MCU, 128KB flash, 16KB RAM, 32 MHz, 1.65-3.6V, 51 GPIO, LQFP64; ki_keywords: Arm Cortex-M3 STM32L1 STM32L151/152; ki_fp_filters: LQFP*10x10mm*P0.5mm*; Footprint: Package_QFP:LQFP-64_10x10mm_P0.5mm; Datasheet: https://www.st.com/resource/en/datasheet/stm32l151rb.pdf; Description_: STMicroelectronics Arm Cortex-M3 MCU, 128KB flash, 16KB RAM, 32 MHz, 1.65-3.6V, 51 GPIO, LQFP64
pins: 1 VLCD, 2 PC13, 3 PC14, 4 PC15, 5 PH0, 6 PH1, 7 NRST, 8 PC0, 9 PC1, 10 PC2, 11 PC3, 12 VSSA, 13 VDDA, 14 PA0, 15 PA1, 16 PA2, 17 PA3, 18 VSS, 19 VDD, 20 PA4, 21 PA5, 22 PA6, 23 PA7, 24 PC4, 25 PC5, 26 PB0, 27 PB1, 28 PB2, 29 PB10, 30 PB11, 31 VSS, 32 VDD, 33 PB12, 34 PB13, 35 PB14, 36 PB15, 37 PC6, 38 PC7, 39 PC8, 40 PC9, 41 PA8, 42 PA9, 43 PA10, 44 PA11, 45 PA12, 46 PA13, 47 VSS, 48 VDD, 49 PA14, 50 PA15, 51 PC10, 52 PC11, 53 PC12, 54 PD2, 55 PB3, 56 PB4, 57 PB5, 58 PB6, 59 PB7, 60 BOOT0, 61 PB8, 62 PB9, 63 VSS, 64 VDD

## STM32L151RBTxA
designator *  value STM32L151RBTxA  Reference: U
STMicroelectronics Arm Cortex-M3 MCU, 128KB flash, 32KB RAM, 32 MHz, 1.65-3.6V, 51 GPIO, LQFP64; ki_keywords: Arm Cortex-M3 STM32L1 STM32L151/152; ki_fp_filters: LQFP*10x10mm*P0.5mm*; Footprint: Package_QFP:LQFP-64_10x10mm_P0.5mm; Datasheet: https://www.st.com/resource/en/datasheet/stm32l151rb-a.pdf; Description_: STMicroelectronics Arm Cortex-M3 MCU, 128KB flash, 32KB RAM, 32 MHz, 1.65-3.6V, 51 GPIO, LQFP64
pins: 1 VLCD, 2 PC13, 3 PC14, 4 PC15, 5 PH0, 6 PH1, 7 NRST, 8 PC0, 9 PC1, 10 PC2, 11 PC3, 12 VSSA, 13 VDDA, 14 PA0, 15 PA1, 16 PA2, 17 PA3, 18 VSS, 19 VDD, 20 PA4, 21 PA5, 22 PA6, 23 PA7, 24 PC4, 25 PC5, 26 PB0, 27 PB1, 28 PB2, 29 PB10, 30 PB11, 31 VSS, 32 VDD, 33 PB12, 34 PB13, 35 PB14, 36 PB15, 37 PC6, 38 PC7, 39 PC8, 40 PC9, 41 PA8, 42 PA9, 43 PA10, 44 PA11, 45 PA12, 46 PA13, 47 VSS, 48 VDD, 49 PA14, 50 PA15, 51 PC10, 52 PC11, 53 PC12, 54 PD2, 55 PB3, 56 PB4, 57 PB5, 58 PB6, 59 PB7, 60 BOOT0, 61 PB8, 62 PB9, 63 VSS, 64 VDD

## STM32L151RCTx
designator *  value STM32L151RCTx  Reference: U
STMicroelectronics Arm Cortex-M3 MCU, 256KB flash, 32KB RAM, 32 MHz, 1.65-3.6V, 51 GPIO, LQFP64; ki_keywords: Arm Cortex-M3 STM32L1 STM32L151/152; ki_fp_filters: LQFP*10x10mm*P0.5mm*; Footprint: Package_QFP:LQFP-64_10x10mm_P0.5mm; Datasheet: https://www.st.com/resource/en/datasheet/stm32l151rc.pdf; Description_: STMicroelectronics Arm Cortex-M3 MCU, 256KB flash, 32KB RAM, 32 MHz, 1.65-3.6V, 51 GPIO, LQFP64
pins: 1 VLCD, 2 PC13, 3 PC14, 4 PC15, 5 PH0, 6 PH1, 7 NRST, 8 PC0, 9 PC1, 10 PC2, 11 PC3, 12 VSSA, 13 VDDA, 14 PA0, 15 PA1, 16 PA2, 17 PA3, 18 VSS, 19 VDD, 20 PA4, 21 PA5, 22 PA6, 23 PA7, 24 PC4, 25 PC5, 26 PB0, 27 PB1, 28 PB2, 29 PB10, 30 PB11, 31 VSS, 32 VDD, 33 PB12, 34 PB13, 35 PB14, 36 PB15, 37 PC6, 38 PC7, 39 PC8, 40 PC9, 41 PA8, 42 PA9, 43 PA10, 44 PA11, 45 PA12, 46 PA13, 47 VSS, 48 VDD, 49 PA14, 50 PA15, 51 PC10, 52 PC11, 53 PC12, 54 PD2, 55 PB3, 56 PB4, 57 PB5, 58 PB6, 59 PB7, 60 BOOT0, 61 PB8, 62 PB9, 63 VSS, 64 VDD

## STM32L151RCTxA
designator *  value STM32L151RCTxA  Reference: U
STMicroelectronics Arm Cortex-M3 MCU, 256KB flash, 32KB RAM, 32 MHz, 1.65-3.6V, 51 GPIO, LQFP64; ki_keywords: Arm Cortex-M3 STM32L1 STM32L151/152; ki_fp_filters: LQFP*10x10mm*P0.5mm*; Footprint: Package_QFP:LQFP-64_10x10mm_P0.5mm; Datasheet: https://www.st.com/resource/en/datasheet/stm32l151rc-a.pdf; Description_: STMicroelectronics Arm Cortex-M3 MCU, 256KB flash, 32KB RAM, 32 MHz, 1.65-3.6V, 51 GPIO, LQFP64
pins: 1 VLCD, 2 PC13, 3 PC14, 4 PC15, 5 PH0, 6 PH1, 7 NRST, 8 PC0, 9 PC1, 10 PC2, 11 PC3, 12 VSSA, 13 VDDA, 14 PA0, 15 PA1, 16 PA2, 17 PA3, 18 VSS, 19 VDD, 20 PA4, 21 PA5, 22 PA6, 23 PA7, 24 PC4, 25 PC5, 26 PB0, 27 PB1, 28 PB2, 29 PB10, 30 PB11, 31 VSS, 32 VDD, 33 PB12, 34 PB13, 35 PB14, 36 PB15, 37 PC6, 38 PC7, 39 PC8, 40 PC9, 41 PA8, 42 PA9, 43 PA10, 44 PA11, 45 PA12, 46 PA13, 47 VSS, 48 VDD, 49 PA14, 50 PA15, 51 PC10, 52 PC11, 53 PC12, 54 PD2, 55 PB3, 56 PB4, 57 PB5, 58 PB6, 59 PB7, 60 BOOT0, 61 PB8, 62 PB9, 63 VSS, 64 VDD